# Altium integrated library Lattice ORCA Series 2.IntLib: 202 symbols (part 7 of 22)
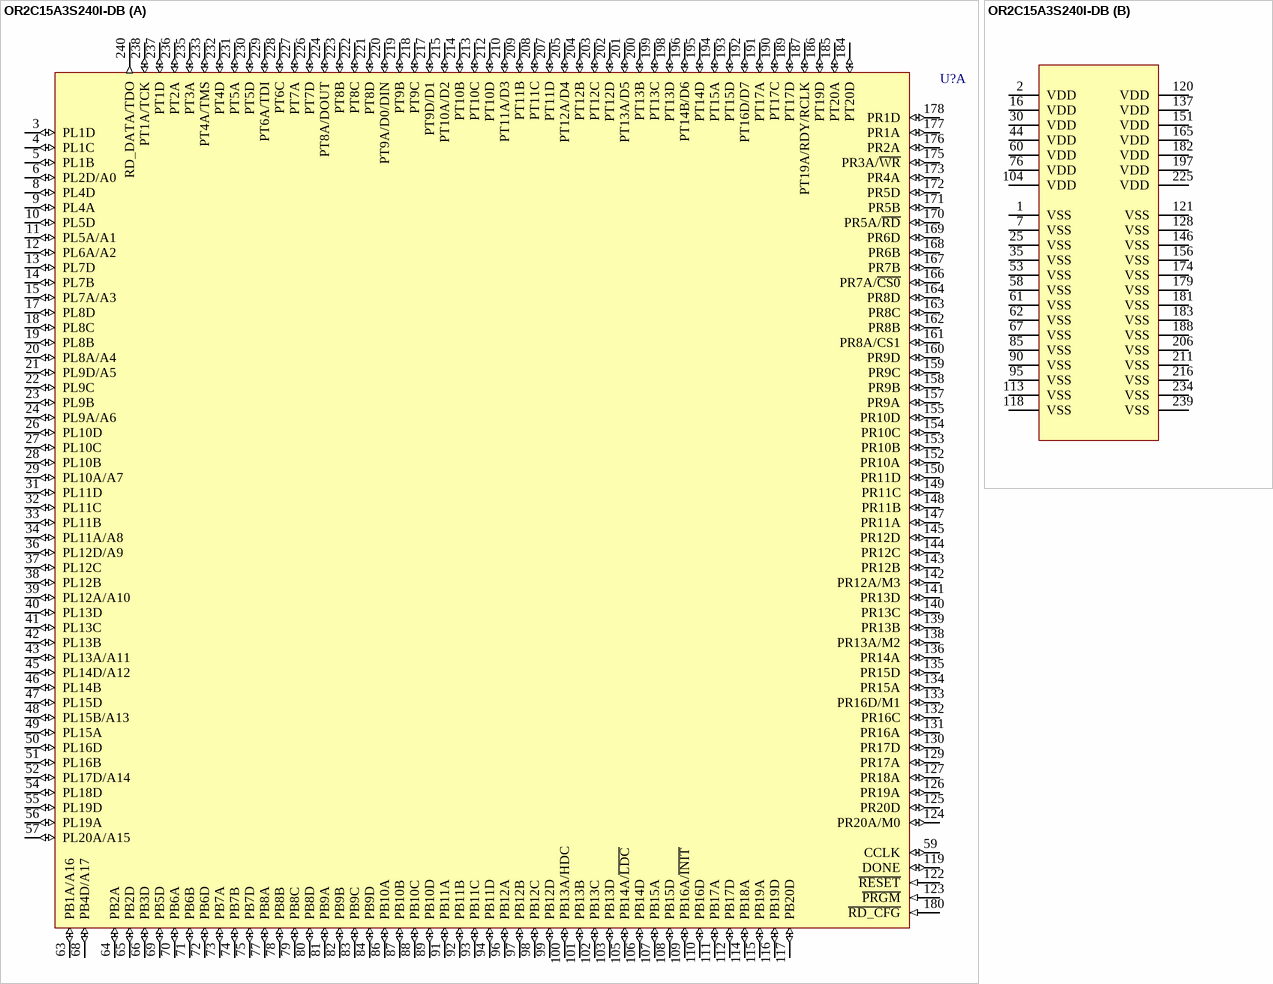
[diagram p198: symbol OR2C15A3S240I-DB]

## OR2C15A3S240I-DB
designator U?
ORCA Series 2C FPGA: 5.0 V, Industrial Grade, 320 User I/Os.; Published: 21-May-2003; LatestRevisionDate: 13-Apr-2006; LatestRevisionNote: IPC-7351 Footprint Added.; DatasheetVersion: Jan-2003; PackageVersion: pkg_32, Aug-2005; PackageReference: PQFP240; Publisher: Altium Limited; PackageDescription: 240-Pin Shrink Quad Flat Pack 0.5 mm Pitch; ComponentLink1Description: Manufacturer Link; ComponentLink1URL: http://www.latticesemi.com/products/fpga/orca/orca2/index.cfm; ComponentLink2Description: Datasheet; ComponentLink2URL: http://www.latticesemi.com/lit/docs/datasheets/fpga/ds99-094fpga.pdf; ComponentLink3Description: Lattice Login; ComponentLink3URL: http://www.latticesemi.com/account/login.cfm
footprint PQFP240_N (Shrink QFP, 240-Leads, Body 32x32mm, Pitch 0.5mm, IPC Medium Density)
footprint PQFP240_L (Shrink QFP, 240-Leads, Body 32x32mm, Pitch 0.5mm, IPC High Density)
footprint PQFP240_M (Shrink QFP, 240-Leads, Body 32x32mm, Pitch 0.5mm, IPC Low Density)
3D model OR2C15A-PQFP240 (240-Pin Shrink Quad Flat Pack 0.5 mm Pitch)
part A pins: 3 PL1D (io), 4 PL1C (io), 5 PL1B (io), 6 PL2D/A0 (io), 8 PL4D (io), 9 PL4A (io), 10 PL5D (io), 11 PL5A/A1 (io), 12 PL6A/A2 (io), 13 PL7D (io), 14 PL7B (io), 15 PL7A/A3 (io), 17 PL8D (io), 18 PL8C (io), 19 PL8B (io), 20 PL8A/A4 (io), 21 PL9D/A5 (io), 22 PL9C (io), 23 PL9B (io), 24 PL9A/A6 (io), 26 PL10D (io), 27 PL10C (io), 28 PL10B (io), 29 PL10A/A7 (io), 31 PL11D (io), 32 PL11C (io), 33 PL11B (io), 34 PL11A/A8 (io), 36 PL12D/A9 (io), 37 PL12C (io), 38 PL12B (io), 39 PL12A/A10 (io), 40 PL13D (io), 41 PL13C (io), 42 PL13B (io), 43 PL13A/A11 (io), 45 PL14D/A12 (io), 46 PL14B (io), 47 PL15D (io), 48 PL15B/A13 (io), 49 PL15A (io), 50 PL16D (io), 51 PL16B (io), 52 PL17D/A14 (io), 54 PL18D (io), 55 PL19D (io), 56 PL19A (io), 57 PL20A/A15 (io), 59 CCLK (io), 63 PB1A/A16 (io), 64 PB2A (io), 65 PB2D (io), 66 PB3D (io), 68 PB4D/A17 (io), 69 PB5D (io), 70 PB6A (io), 71 PB6B (io), 72 PB6D (io), 73 PB7A (io), 74 PB7B (io), 75 PB7D (io), 77 PB8A (io), 78 PB8B (io), 79 PB8C (io), 80 PB8D (io), 81 PB9A (io), 82 PB9B (io), 83 PB9C (io), 84 PB9D (io), 86 PB10A (io), 87 PB10B (io), 88 PB10C (io), 89 PB10D (io), 91 PB11A (io), 92 PB11B (io), 93 PB11C (io), 94 PB11D (io), 96 PB12A (io), 97 PB12B (io), 98 PB12C (io), 99 PB12D (io), 100 PB13A/HDC (io), 101 PB13B (io), 102 PB13C (io), 103 PB13D (io), 105 PB14A/~{LDC} (io), 106 PB14D (io), 107 PB15A (io), 108 PB15D (io), 109 PB16A/~{INIT} (io), 110 PB16D (io), 111 PB17A (io), 112 PB17D (io), 114 PB18A (io), 115 PB19A (io), 116 PB19D (io), 117 PB20D (io), 119 DONE (io), 122 ~{RESET} (in), 123 ~{PRGM} (in), 124 PR20A/M0 (io), 125 PR20D (io), 126 PR19A (io), 127 PR18A (io), 129 PR17A (io), 130 PR17D (io), 131 PR16A (io), 132 PR16C (io), 133 PR16D/M1 (io), 134 PR15A (io), 135 PR15D (io), 136 PR14A (io), 138 PR13A/M2 (io), 139 PR13B (io), 140 PR13C (io), 141 PR13D (io), 142 PR12A/M3 (io), 143 PR12B (io), 144 PR12C (io), 145 PR12D (io), 147 PR11A (io), 148 PR11B (io), 149 PR11C (io), 150 PR11D (io), 152 PR10A (io), 153 PR10B (io), 154 PR10C (io), 155 PR10D (io), 157 PR9A (io), 158 PR9B (io), 159 PR9C (io), 160 PR9D (io), 161 PR8A/CS1 (io), 162 PR8B (io), 163 PR8C (io), 164 PR8D (io), 166 PR7A/~{CS0} (io), 167 PR7B (io), 168 PR6B (io), 169 PR6D (io), 170 PR5A/~{RD} (io), 171 PR5B (io), 172 PR5D (io), 173 PR4A (io), 175 PR3A/~{WR} (io), 176 PR2A (io), 177 PR1A (io), 178 PR1D (io), 180 ~{RD_CFG} (in), 184 PT20D (io), 185 PT20A (io), 186 PT19D (io), 187 PT19A/RDY/RCLK (io), 189 PT17D (io), 190 PT17C (io), 191 PT17A (io), 192 PT16D/D7 (io), 193 PT15D (io), 194 PT15A (io), 195 PT14D (io), 196 PT14B/D6 (io), 198 PT13D (io), 199 PT13C (io), 200 PT13B (io), 201 PT13A/D5 (io), 202 PT12D (io), 203 PT12C (io), 204 PT12B (io), 205 PT12A/D4 (io), 207 PT11D (io), 208 PT11C (io), 209 PT11B (io), 210 PT11A/D3 (io), 212 PT10D (io), 213 PT10C (io), 214 PT10B (io), 215 PT10A/D2 (io), 217 PT9D/D1 (io), 218 PT9C (io), 219 PT9B (io), 220 PT9A/D0/DIN (io), 221 PT8D (io), 222 PT8C (io), 223 PT8B (io), 224 PT8A/DOUT (io), 226 PT7D (io), 227 PT7A (io), 228 PT6C (io), 229 PT6A/TDI (io), 230 PT5D (io), 231 PT5A (io), 232 PT4D (io), 233 PT4A/TMS (io), 235 PT3A (io), 236 PT2A (io), 237 PT1D (io), 238 PT1A/TCK (io), 240 RD_DATA/TDO (out)
part B pins: 1 VSS (power), 2 VDD (power), 7 VSS (power), 16 VDD (power), 25 VSS (power), 30 VDD (power), 35 VSS (power), 44 VDD (power), 53 VSS (power), 58 VSS (power), 60 VDD (power), 61 VSS (power), 62 VSS (power), 67 VSS (power), 76 VDD (power), 85 VSS (power), 90 VSS (power), 95 VSS (power), 104 VDD (power), 113 VSS (power), 118 VSS (power), 120 VDD (power), 121 VSS (power), 128 VSS (power), 137 VDD (power), 146 VSS (power), 151 VDD (power), 156 VSS (power), 165 VDD (power), 174 VSS (power), 179 VSS (power), 181 VSS (power), 182 VDD (power), 183 VSS (power), 188 VSS (power), 197 VDD (power), 206 VSS (power), 211 VSS (power), 216 VSS (power), 225 VDD (power), 234 VSS (power), 239 VSS (power)

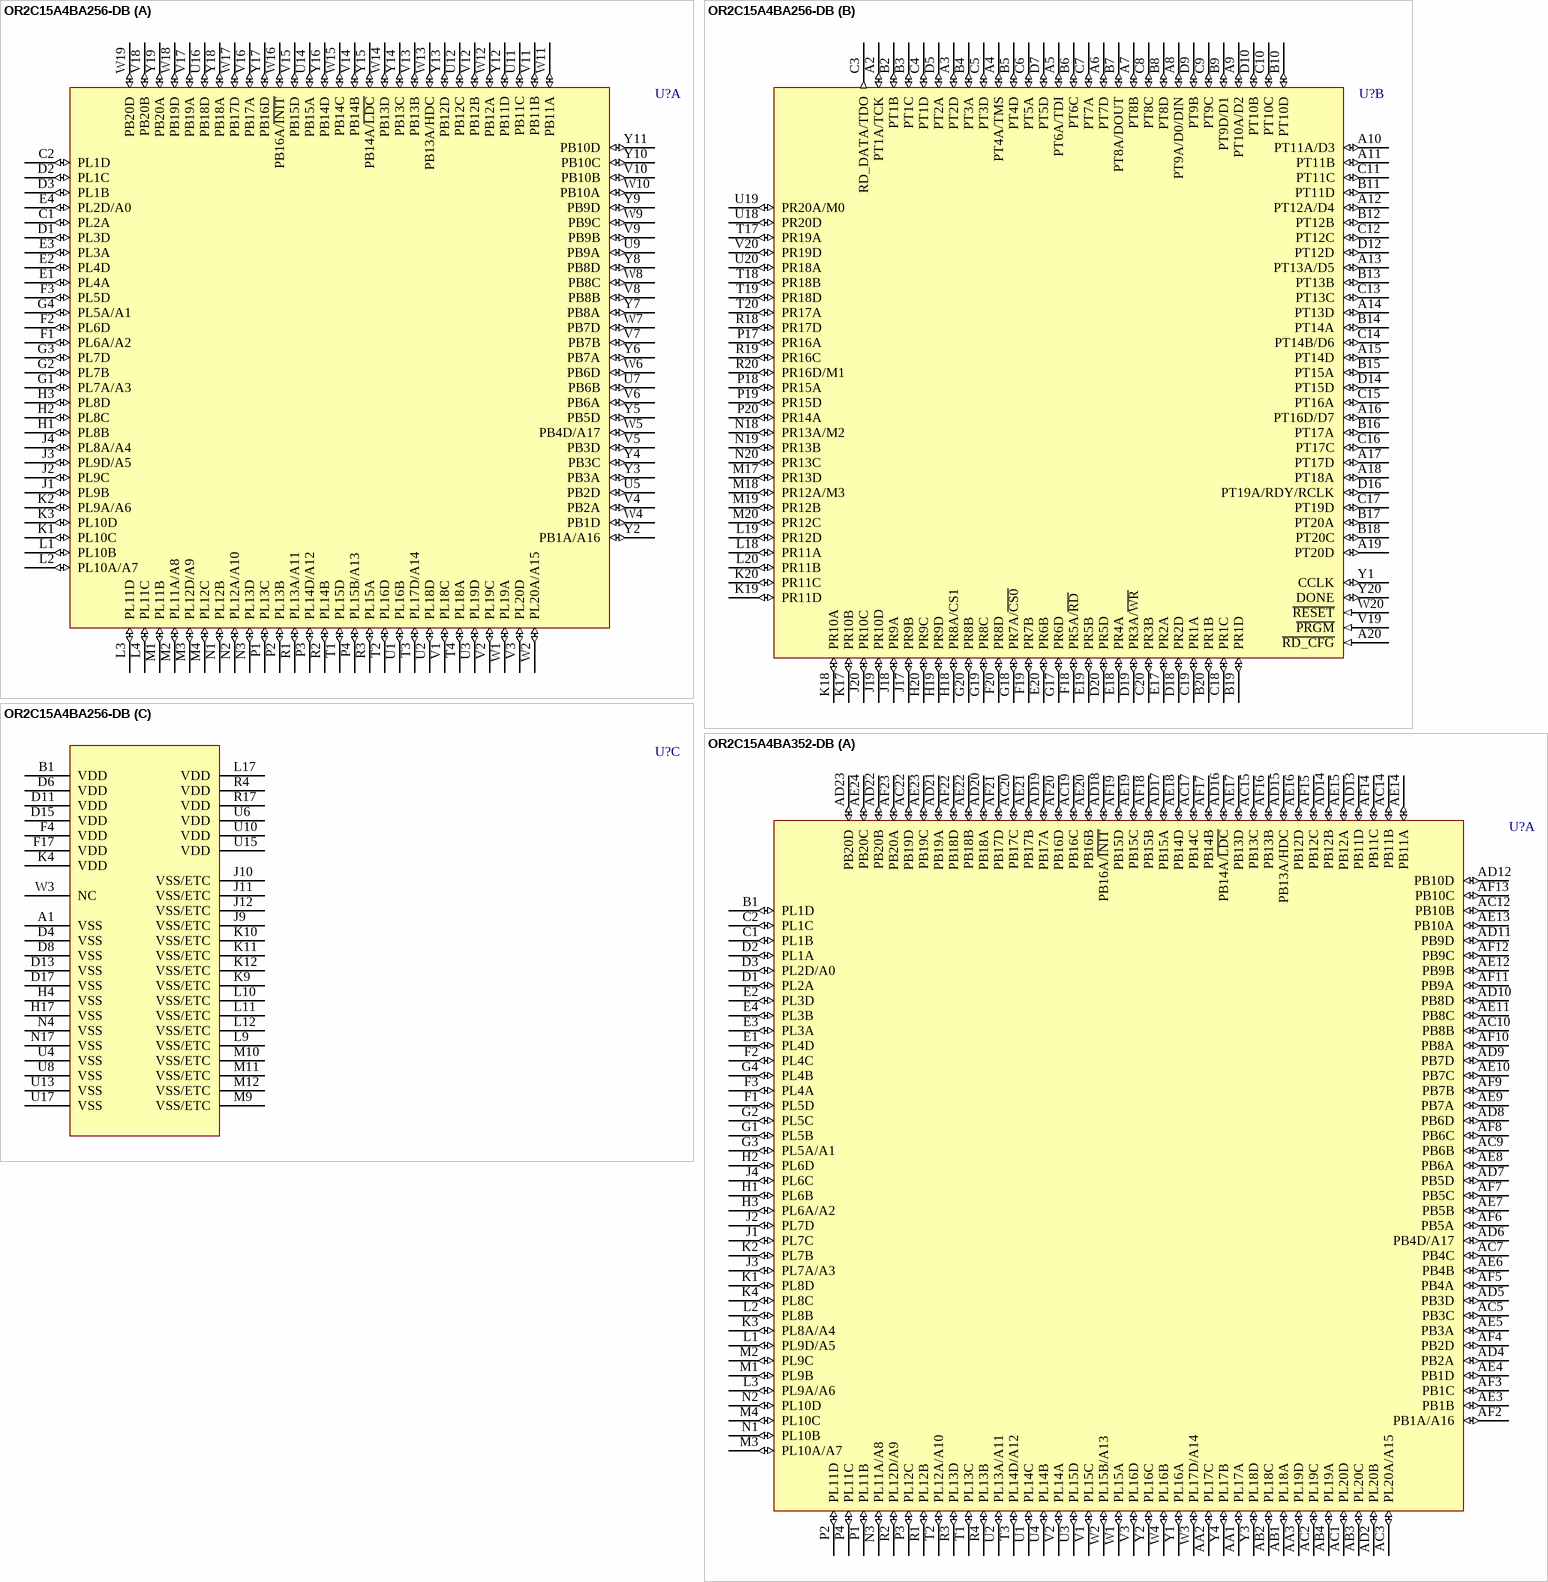
[diagram p47: symbols OR2C15A4BA256-DB to OR2C15A4BA352-DB]

## OR2C15A4BA256-DB
designator U?
ORCA Series 2C FPGA: 5.0 V, Commercial Grade, 320 User I/Os.; PinConnectionRecommendation: Ground array of 'VSS-ETC' pins for enhanced thermal capability or leave unconnected.; Published: 21-May-2003; LatestRevisionDate: 13-Apr-2006; LatestRevisionNote: IPC-7351 Footprint Added.; DatasheetVersion: Jan-2003; PackageVersion: pkg_32, Aug-2005; PackageReference: BGA272; Publisher: Altium Limited; PackageDescription: 272-Ball Ball Grid Array (BGA272); ComponentLink1Description: Manufacturer Link; ComponentLink1URL: http://www.latticesemi.com/products/fpga/orca/orca2/index.cfm; ComponentLink2Description: Datasheet; ComponentLink2URL: http://www.latticesemi.com/lit/docs/datasheets/fpga/ds99-094fpga.pdf; ComponentLink3Description: Lattice Login; ComponentLink3URL: http://www.latticesemi.com/account/login.cfm
footprint BGA272 (BGA, 272-Leads, Body 27x27mm, Pitch 1.27mm)
3D model OR2C15A-BGA272 (272-Ball Ball Grid Array (BGA272))
part A pins: C1 PL2A (io), C2 PL1D (io), D1 PL3D (io), D2 PL1C (io), D3 PL1B (io), E1 PL4A (io), E2 PL4D (io), E3 PL3A (io), E4 PL2D/A0 (io), F1 PL6A/A2 (io), F2 PL6D (io), F3 PL5D (io), G1 PL7A/A3 (io), G2 PL7B (io), G3 PL7D (io), G4 PL5A/A1 (io), H1 PL8B (io), H2 PL8C (io), H3 PL8D (io), J1 PL9B (io), J2 PL9C (io), J3 PL9D/A5 (io), J4 PL8A/A4 (io), K1 PL10C (io), K2 PL9A/A6 (io), K3 PL10D (io), L1 PL10B (io), L2 PL10A/A7 (io), L3 PL11D (io), L4 PL11C (io), M1 PL11B (io), M2 PL11A/A8 (io), M3 PL12D/A9 (io), M4 PL12C (io), N1 PL12B (io), N2 PL12A/A10 (io), N3 PL13D (io), P1 PL13C (io), P2 PL13B (io), P3 PL14D/A12 (io), P4 PL15B/A13 (io), R1 PL13A/A11 (io), R2 PL14B (io), R3 PL15A (io), T1 PL15D (io), T2 PL16D (io), T3 PL17D/A14 (io), T4 PL18A (io), U1 PL16B (io), U2 PL18D (io), U3 PL19D (io), U5 PB2D (io), U7 PB6B (io), U9 PB9A (io), U11 PB11C (io), U12 PB12C (io), U14 PB15A (io), U16 PB18D (io), V1 PL18C (io), V2 PL19C (io), V3 PL20D (io), V4 PB2A (io), V5 PB3D (io), V6 PB6A (io), V7 PB7B (io), V8 PB8B (io), V9 PB9B (io), V10 PB10B (io), V11 PB11B (io), V12 PB12B (io), V13 PB13B (io), V14 PB14B (io), V15 PB15D (io), V16 PB17A (io), V17 PB19A (io), V18 PB20B (io), W1 PL19A (io), W2 PL20A/A15 (io), W4 PB1D (io), W5 PB4D/A17 (io), W6 PB6D (io), W7 PB7D (io), W8 PB8C (io), W9 PB9C (io), W10 PB10A (io), W11 PB11A (io), W12 PB12A (io), W13 PB13A/HDC (io), W14 PB13D (io), W15 PB14C (io), W16 PB16A/~{INIT} (io), W17 PB17D (io), W18 PB19D (io), W19 PB20D (io), Y2 PB1A/A16 (io), Y3 PB3A (io), Y4 PB3C (io), Y5 PB5D (io), Y6 PB7A (io), Y7 PB8A (io), Y8 PB8D (io), Y9 PB9D (io), Y10 PB10C (io), Y11 PB10D (io), Y12 PB11D (io), Y13 PB12D (io), Y14 PB13C (io), Y15 PB14A/~{LDC} (io), Y16 PB14D (io), Y17 PB16D (io), Y18 PB18A (io), Y19 PB20A (io)
part B pins: A2 PT1A/TCK (io), A3 PT2D (io), A4 PT4A/TMS (io), A5 PT6A/TDI (io), A6 PT7D (io), A7 PT8B (io), A8 PT9A/D0/DIN (io), A9 PT10A/D2 (io), A10 PT11A/D3 (io), A11 PT11B (io), A12 PT12A/D4 (io), A13 PT13A/D5 (io), A14 PT13D (io), A15 PT14D (io), A16 PT16D/D7 (io), A17 PT17D (io), A18 PT18A (io), A19 PT20D (io), A20 ~{RD_CFG} (in), B2 PT1B (io), B3 PT1C (io), B4 PT3A (io), B5 PT4D (io), B6 PT6C (io), B7 PT8A/DOUT (io), B8 PT8D (io), B9 PT9D/D1 (io), B10 PT10D (io), B11 PT11D (io), B12 PT12B (io), B13 PT13B (io), B14 PT14A (io), B15 PT15A (io), B16 PT17A (io), B17 PT20A (io), B18 PT20C (io), B19 PR1D (io), B20 PR1B (io), C3 RD_DATA/TDO (out), C4 PT1D (io), C5 PT3D (io), C6 PT5A (io), C7 PT7A (io), C8 PT8C (io), C9 PT9C (io), C10 PT10C (io), C11 PT11C (io), C12 PT12C (io), C13 PT13C (io), C14 PT14B/D6 (io), C15 PT16A (io), C16 PT17C (io), C17 PT19D (io), C18 PR1C (io), C19 PR1A (io), C20 PR3B (io), D5 PT2A (io), D7 PT5D (io), D9 PT9B (io), D10 PT10B (io), D12 PT12D (io), D14 PT15D (io), D16 PT19A/RDY/RCLK (io), D18 PR2D (io), D19 PR3A/~{WR} (io), D20 PR5D (io), E17 PR2A (io), E18 PR4A (io), E19 PR5B (io), E20 PR6B (io), F18 PR5A/~{RD} (io), F19 PR7B (io), F20 PR8D (io), G17 PR6D (io), G18 PR7A/~{CS0} (io), G19 PR8C (io), G20 PR8B (io), H18 PR8A/CS1 (io), H19 PR9D (io), H20 PR9C (io), J17 PR9B (io), J18 PR9A (io), J19 PR10D (io), J20 PR10C (io), K17 PR10B (io), K18 PR10A (io), K19 PR11D (io), K20 PR11C (io), L18 PR11A (io), L19 PR12D (io), L20 PR11B (io), M17 PR13D (io), M18 PR12A/M3 (io), M19 PR12B (io), M20 PR12C (io), N18 PR13A/M2 (io), N19 PR13B (io), N20 PR13C (io), P17 PR16A (io), P18 PR15A (io), P19 PR15D (io), P20 PR14A (io), R18 PR17D (io), R19 PR16C (io), R20 PR16D/M1 (io), T17 PR19A (io), T18 PR18B (io), T19 PR18D (io), T20 PR17A (io), U18 PR20D (io), U19 PR20A/M0 (io), U20 PR18A (io), V19 ~{PRGM} (in), V20 PR19D (io), W20 ~{RESET} (in), Y1 CCLK (io), Y20 DONE (io)
part C pins: A1 VSS (power), B1 VDD (power), D4 VSS (power), D6 VDD (power), D8 VSS (power), D11 VDD (power), D13 VSS (power), D15 VDD (power), D17 VSS (power), F4 VDD (power), F17 VDD (power), H4 VSS (power), H17 VSS (power), J9 VSS/ETC (power), J10 VSS/ETC (power), J11 VSS/ETC (power), J12 VSS/ETC (power), K4 VDD (power), K9 VSS/ETC (power), K10 VSS/ETC (power), K11 VSS/ETC (power), K12 VSS/ETC (power), L9 VSS/ETC (power), L10 VSS/ETC (power), L11 VSS/ETC (power), L12 VSS/ETC (power), L17 VDD (power), M9 VSS/ETC (power), M10 VSS/ETC (power), M11 VSS/ETC (power), M12 VSS/ETC (power), N4 VSS (power), N17 VSS (power), R4 VDD (power), R17 VDD (power), U4 VSS (power), U6 VDD (power), U8 VSS (power), U10 VDD (power), U13 VSS (power), U15 VDD (power), U17 VSS (power), W3 NC

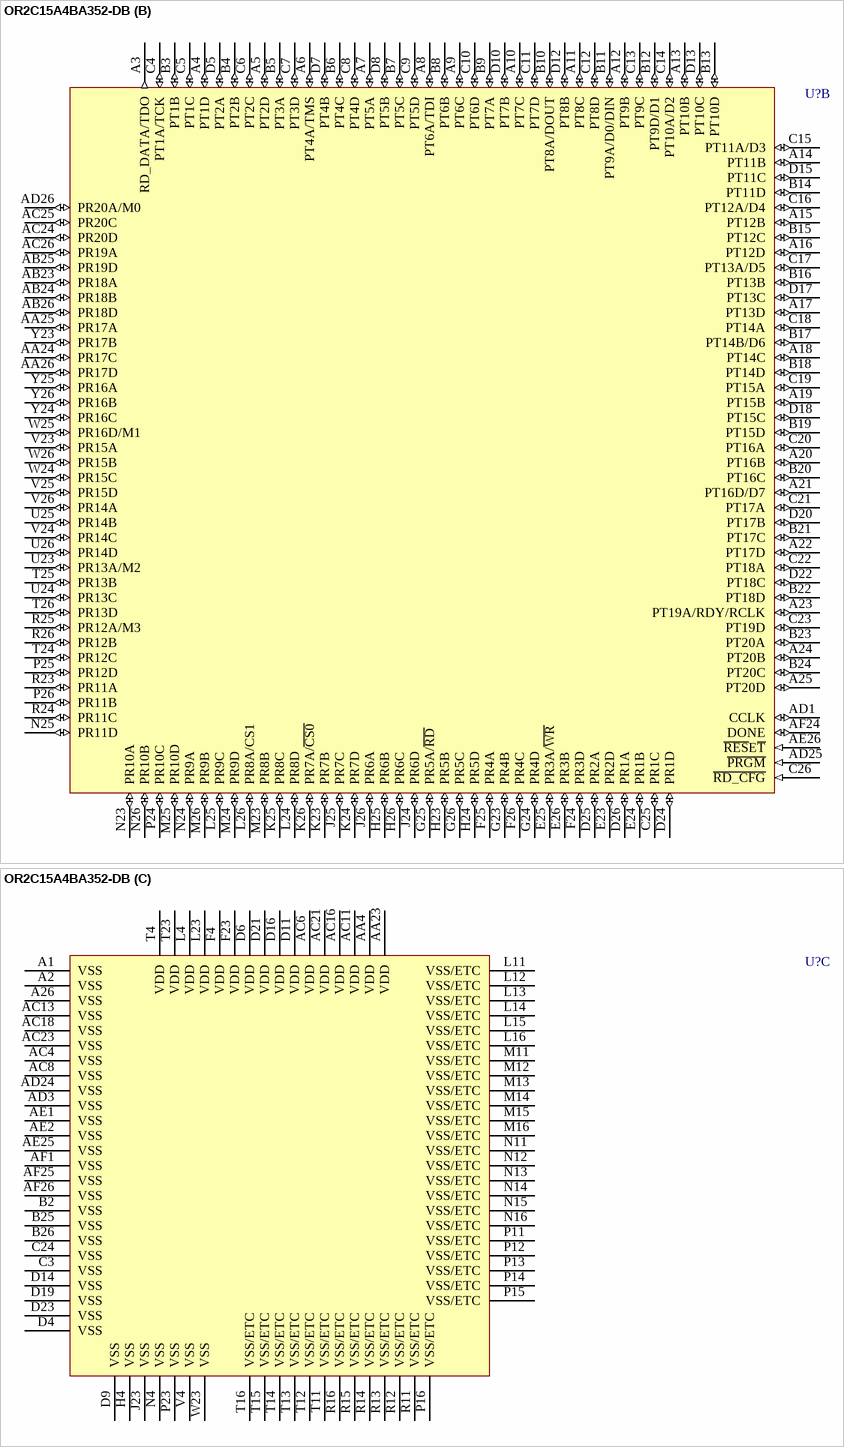
[diagram p48: symbol OR2C15A4BA352-DB]

## OR2C15A4BA352-DB
designator U?
ORCA Series 2C FPGA: 5.0 V, Commercial Grade, 320 User I/Os.; PinConnectionRecommendation: Ground array of 'VSS-ETC' pins for enhanced thermal capability or leave unconnected.; Published: 21-May-2003; LatestRevisionDate: 13-Apr-2006; LatestRevisionNote: IPC-7351 Footprint Added.; DatasheetVersion: Jan-2003; PackageVersion: pkg_32, Aug-2005; PackageReference: BGA388; Publisher: Altium Limited; PackageDescription: 388-Ball Ball Grid Array (BGA388); ComponentLink1Description: Manufacturer Link; ComponentLink1URL: http://www.latticesemi.com/products/fpga/orca/orca2/index.cfm; ComponentLink2Description: Datasheet; ComponentLink2URL: http://www.latticesemi.com/lit/docs/datasheets/fpga/ds99-094fpga.pdf; ComponentLink3Description: Lattice Login; ComponentLink3URL: http://www.latticesemi.com/account/login.cfm
footprint BGA388 (BGA, 388-Leads, Body 35x35mm, Pitch 1.27mm)
3D model OR2C15A-BGA388 (388-Ball Ball Grid Array (BGA388))
part A pins: AA1 PL17A (io), AA2 PL17C (io), AA3 PL19D (io), AB1 PL18A (io), AB2 PL18C (io), AB3 PL20C (io), AB4 PL19A (io), AC1 PL20D (io), AC2 PL19C (io), AC3 PL20A/A15 (io), AC5 PB3C (io), AC7 PB4C (io), AC9 PB6B (io), AC10 PB8B (io), AC12 PB10B (io), AC14 PB11B (io), AC15 PB13C (io), AC17 PB14C (io), AC19 PB16C (io), AC20 PB17C (io), AC22 PB19D (io), AD2 PL20B (io), AD4 PB2A (io), AD5 PB3D (io), AD6 PB4D/A17 (io), AD7 PB5D (io), AD8 PB6D (io), AD9 PB7D (io), AD10 PB8D (io), AD11 PB9D (io), AD12 PB10D (io), AD13 PB11D (io), AD14 PB12B (io), AD15 PB13A/HDC (io), AD16 PB14A/~{LDC} (io), AD17 PB15A (io), AD18 PB16A/~{INIT} (io), AD19 PB17A (io), AD20 PB18A (io), AD21 PB19A (io), AD22 PB20B (io), AD23 PB20D (io), AE3 PB1B (io), AE4 PB1D (io), AE5 PB3A (io), AE6 PB4B (io), AE7 PB5B (io), AE8 PB6A (io), AE9 PB7A (io), AE10 PB7C (io), AE11 PB8C (io), AE12 PB9B (io), AE13 PB10A (io), AE14 PB11A (io), AE15 PB12A (io), AE16 PB12D (io), AE17 PB13D (io), AE18 PB14D (io), AE19 PB15C (io), AE20 PB16B (io), AE21 PB17B (io), AE22 PB18B (io), AE23 PB19C (io), AE24 PB20C (io), AF2 PB1A/A16 (io), AF3 PB1C (io), AF4 PB2D (io), AF5 PB4A (io), AF6 PB5A (io), AF7 PB5C (io), AF8 PB6C (io), AF9 PB7B (io), AF10 PB8A (io), AF11 PB9A (io), AF12 PB9C (io), AF13 PB10C (io), AF14 PB11C (io), AF15 PB12C (io), AF16 PB13B (io), AF17 PB14B (io), AF18 PB15B (io), AF19 PB15D (io), AF20 PB16D (io), AF21 PB17D (io), AF22 PB18D (io), AF23 PB20A (io), B1 PL1D (io), C1 PL1B (io), C2 PL1C (io), D1 PL2A (io), D2 PL1A (io), D3 PL2D/A0 (io), E1 PL4D (io), E2 PL3D (io), E3 PL3A (io), E4 PL3B (io), F1 PL5D (io), F2 PL4C (io), F3 PL4A (io), G1 PL5B (io), G2 PL5C (io), G3 PL5A/A1 (io), G4 PL4B (io), H1 PL6B (io), H2 PL6D (io), H3 PL6A/A2 (io), J1 PL7C (io), J2 PL7D (io), J3 PL7A/A3 (io), J4 PL6C (io), K1 PL8D (io), K2 PL7B (io), K3 PL8A/A4 (io), K4 PL8C (io), L1 PL9D/A5 (io), L2 PL8B (io), L3 PL9A/A6 (io), M1 PL9B (io), M2 PL9C (io), M3 PL10A/A7 (io), M4 PL10C (io), N1 PL10B (io), N2 PL10D (io), N3 PL11A/A8 (io), P1 PL11B (io), P2 PL11D (io), P3 PL12C (io), P4 PL11C (io), R1 PL12B (io), R2 PL12D/A9 (io), R3 PL13D (io), R4 PL13B (io), T1 PL13C (io), T2 PL12A/A10 (io), T3 PL14D/A12 (io), U1 PL14C (io), U2 PL13A/A11 (io), U3 PL15D (io), U4 PL14B (io), V1 PL15C (io), V2 PL14A (io), V3 PL16D (io), W1 PL15A (io), W2 PL15B/A13 (io), W3 PL17D/A14 (io), W4 PL16B (io), Y1 PL16A (io), Y2 PL16C (io), Y3 PL18D (io), Y4 PL17B (io)
part B pins: A3 RD_DATA/TDO (out), A4 PT1D (io), A5 PT2D (io), A6 PT4A/TMS (io), A7 PT5A (io), A8 PT6A/TDI (io), A9 PT6C (io), A10 PT7C (io), A11 PT8C (io), A12 PT9B (io), A13 PT10B (io), A14 PT11B (io), A15 PT12B (io), A16 PT12D (io), A17 PT13D (io), A18 PT14C (io), A19 PT15B (io), A20 PT16B (io), A21 PT16D/D7 (io), A22 PT17D (io), A23 PT19A/RDY/RCLK (io), A24 PT20B (io), A25 PT20D (io), AA24 PR17C (io), AA25 PR17A (io), AA26 PR17D (io), AB23 PR18A (io), AB24 PR18B (io), AB25 PR19D (io), AB26 PR18D (io), AC24 PR20D (io), AC25 PR20C (io), AC26 PR19A (io), AD1 CCLK (io), AD25 ~{PRGM} (in), AD26 PR20A/M0 (io), AE26 ~{RES}E~{T} (in), AF24 DONE (io), B3 PT1B (io), B4 PT2B (io), B5 PT3A (io), B6 PT4C (io), B7 PT5C (io), B8 PT6B (io), B9 PT7A (io), B10 PT8A/DOUT (io), B11 PT9A/D0/DIN (io), B12 PT9D/D1 (io), B13 PT10D (io), B14 PT11D (io), B15 PT12C (io), B16 PT13B (io), B17 PT14B/D6 (io), B18 PT14D (io), B19 PT15D (io), B20 PT16C (io), B21 PT17C (io), B22 PT18D (io), B23 PT20A (io), B24 PT20C (io), C4 PT1A/TCK (io), C5 PT1C (io), C6 PT2C (io), C7 PT3D (io), C8 PT4D (io), C9 PT5D (io), C10 PT6D (io), C11 PT7D (io), C12 PT8D (io), C13 PT9C (io), C14 PT10A/D2 (io), C15 PT11A/D3 (io), C16 PT12A/D4 (io), C17 PT13A/D5 (io), C18 PT14A (io), C19 PT15A (io), C20 PT16A (io), C21 PT17A (io), C22 PT18A (io), C23 PT19D (io), C25 PR1C (io), C26 ~{RD_CFG} (in), D5 PT2A (io), D7 PT4B (io), D8 PT5B (io), D10 PT7B (io), D12 PT8B (io), D13 PT10C (io), D15 PT11C (io), D17 PT13C (io), D18 PT15C (io), D20 PT17B (io), D22 PT18C (io), D24 PR1D (io), D25 PR2A (io), D26 PR1A (io), E23 PR2D (io), E24 PR1B (io), E25 PR3A/~{WR} (io), E26 PR3B (io), F24 PR3D (io), F25 PR4A (io), F26 PR4C (io), G23 PR4B (io), G24 PR4D (io), G25 PR5A/~{RD} (io), G26 PR5C (io), H23 PR5B (io), H24 PR5D (io), H25 PR6B (io), H26 PR6C (io), J24 PR6D (io), J25 PR7C (io), J26 PR6A (io), K23 PR7B (io), K24 PR7D (io), K25 PR8C (io), K26 PR7A/~{CS0} (io), L24 PR8D (io), L25 PR9C (io), L26 PR8A/CS1 (io), M23 PR8B (io), M24 PR9D (io), M25 PR10D (io), M26 PR9B (io), N23 PR10A (io), N24 PR9A (io), N25 PR11D (io), N26 PR10B (io), P24 PR10C (io), P25 PR12D (io), P26 PR11B (io), R23 PR11A (io), R24 PR11C (io), R25 PR12A/M3 (io), R26 PR12B (io), T24 PR12C (io), T25 PR13B (io), T26 PR13D (io), U23 PR13A/M2 (io), U24 PR13C (io), U25 PR14B (io), U26 PR14D (io), V23 PR15A (io), V24 PR14C (io), V25 PR15D (io), V26 PR14A (io), W24 PR15C (io), W25 PR16D/M1 (io), W26 PR15B (io), Y23 PR17B (io), Y24 PR16C (io), Y25 PR16A (io), Y26 PR16B (io)
part C pins: A1 VSS (power), A2 VSS (power), A26 VSS (power), AA4 VDD (power), AA23 VDD (power), AC4 VSS (power), AC6 VDD (power), AC8 VSS (power), AC11 VDD (power), AC13 VSS (power), AC16 VDD (power), AC18 VSS (power), AC21 VDD (power), AC23 VSS (power), AD3 VSS (power), AD24 VSS (power), AE1 VSS (power), AE2 VSS (power), AE25 VSS (power), AF1 VSS (power), AF25 VSS (power), AF26 VSS (power), B2 VSS (power), B25 VSS (power), B26 VSS (power), C3 VSS (power), C24 VSS (power), D4 VSS (power), D6 VDD (power), D9 VSS (power), D11 VDD (power), D14 VSS (power), D16 VDD (power), D19 VSS (power), D21 VDD (power), D23 VSS (power), F4 VDD (power), F23 VDD (power), H4 VSS (power), J23 VSS (power), L4 VDD (power), L11 VSS/ETC (power), L12 VSS/ETC (power), L13 VSS/ETC (power), L14 VSS/ETC (power), L15 VSS/ETC (power), L16 VSS/ETC (power), L23 VDD (power), M11 VSS/ETC (power), M12 VSS/ETC (power), M13 VSS/ETC (power), M14 VSS/ETC (power), M15 VSS/ETC (power), M16 VSS/ETC (power), N4 VSS (power), N11 VSS/ETC (power), N12 VSS/ETC (power), N13 VSS/ETC (power), N14 VSS/ETC (power), N15 VSS/ETC (power), N16 VSS/ETC (power), P11 VSS/ETC (power), P12 VSS/ETC (power), P13 VSS/ETC (power), P14 VSS/ETC (power), P15 VSS/ETC (power), P16 VSS/ETC (power), P23 VSS (power), R11 VSS/ETC (power), R12 VSS/ETC (power), R13 VSS/ETC (power), R14 VSS/ETC (power), R15 VSS/ETC (power), R16 VSS/ETC (power), T4 VDD (power), T11 VSS/ETC (power), T12 VSS/ETC (power), T13 VSS/ETC (power), T14 VSS/ETC (power), T15 VSS/ETC (power), T16 VSS/ETC (power), T23 VDD (power), V4 VSS (power), W23 VSS (power)

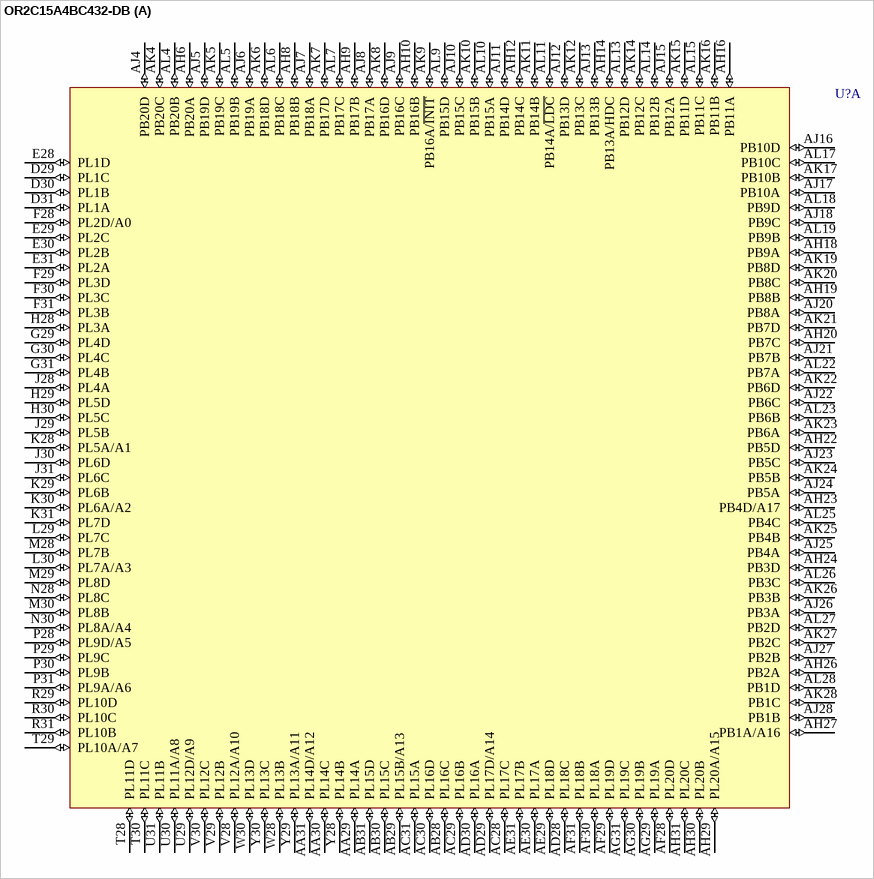
[diagram p49: symbol OR2C15A4BC432-DB]

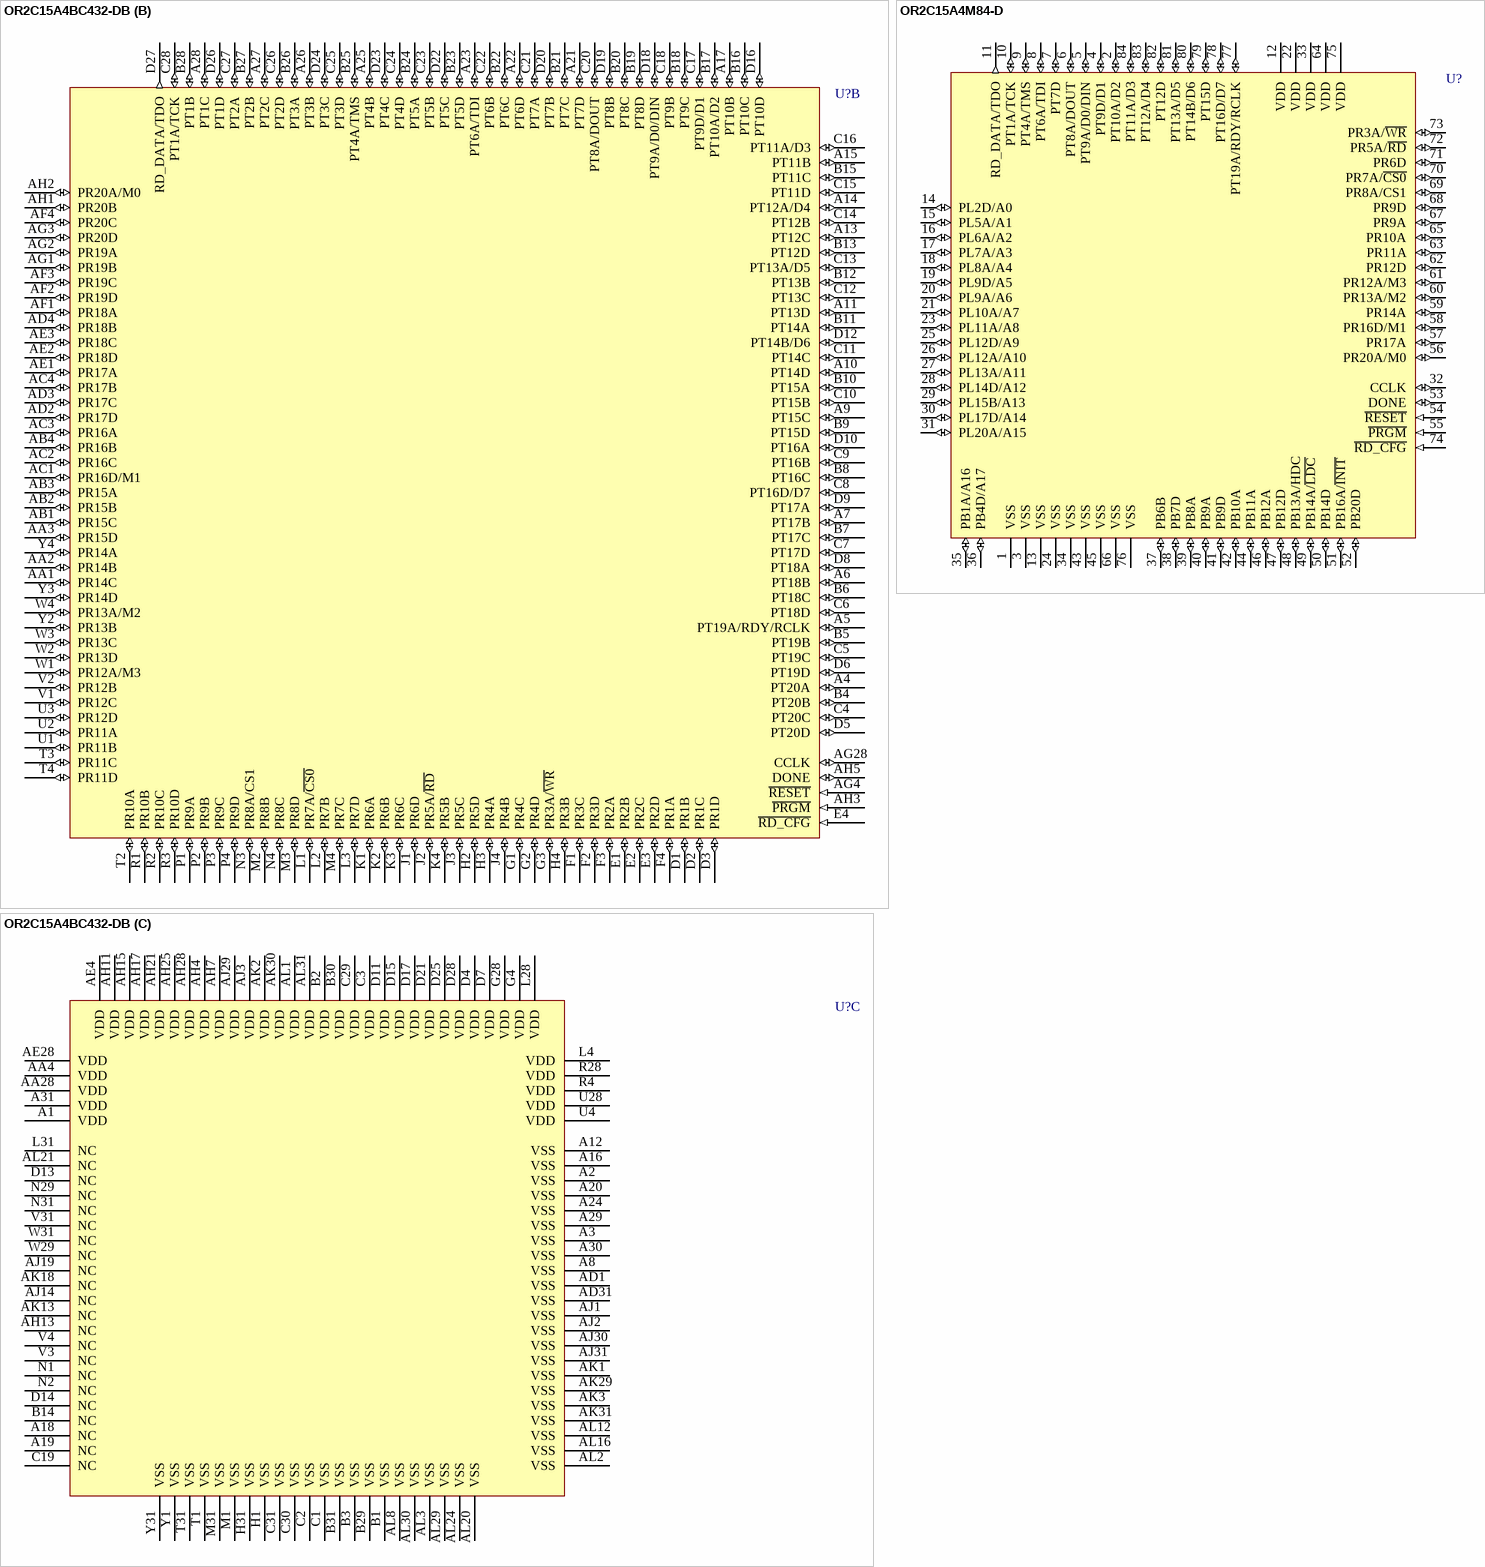
[diagram p50: symbols OR2C15A4BC432-DB to OR2C15A4M84-D]

## OR2C15A4BC432-DB
designator U?
ORCA Series 2C FPGA: 5.0 V, Commercial Grade, 320 User I/Os.; Published: 21-May-2003; LatestRevisionDate: 13-Apr-2006; LatestRevisionNote: IPC-7351 Footprint Added.; DatasheetVersion: Jan-2003; PackageVersion: pkg_32, Aug-2005; PackageReference: SBGA432; Publisher: Altium Limited; PackageDescription: 432-Ball Super Ball Grid Array (SBGA432); ComponentLink1Description: Manufacturer Link; ComponentLink1URL: http://www.latticesemi.com/products/fpga/orca/orca2/index.cfm; ComponentLink2Description: Datasheet; ComponentLink2URL: http://www.latticesemi.com/lit/docs/datasheets/fpga/ds99-094fpga.pdf; ComponentLink3Description: Lattice Login; ComponentLink3URL: http://www.latticesemi.com/account/login.cfm
footprint SBGA432 (BGA, 432-Leads, Body 40x40mm, Pitch 1.27mm)
3D model OR2C15A-SBGA432 (432-Ball Super Ball Grid Array (SBGA432))
part A pins: AA29 PL14A (io), AA30 PL14C (io), AA31 PL14D/A12 (io), AB28 PL16C (io), AB29 PL15B/A13 (io), AB30 PL15C (io), AB31 PL15D (io), AC28 PL17C (io), AC29 PL16B (io), AC30 PL16D (io), AC31 PL15A (io), AD28 PL18C (io), AD29 PL17D/A14 (io), AD30 PL16A (io), AE29 PL18D (io), AE30 PL17A (io), AE31 PL17B (io), AF28 PL20D (io), AF29 PL19D (io), AF30 PL18A (io), AF31 PL18B (io), AG29 PL19A (io), AG30 PL19B (io), AG31 PL19C (io), AH6 PB20A (io), AH8 PB18B (io), AH9 PB17B (io), AH10 PB16B (io), AH12 PB14C (io), AH14 PB13A/HDC (io), AH16 PB11A (io), AH18 PB9A (io), AH19 PB8B (io), AH20 PB7C (io), AH22 PB5D (io), AH23 PB4D/A17 (io), AH24 PB3D (io), AH26 PB2A (io), AH27 PB1A/A16 (io), AH29 PL20A/A15 (io), AH30 PL20B (io), AH31 PL20C (io), AJ4 PB20D (io), AJ5 PB19D (io), AJ6 PB19A (io), AJ7 PB18A (io), AJ8 PB17A (io), AJ9 PB16C (io), AJ10 PB15C (io), AJ11 PB14D (io), AJ12 PB13D (io), AJ13 PB13B (io), AJ15 PB12A (io), AJ16 PB10D (io), AJ17 PB10A (io), AJ18 PB9C (io), AJ20 PB8A (io), AJ21 PB7B (io), AJ22 PB6C (io), AJ23 PB5C (io), AJ24 PB5A (io), AJ25 PB4A (io), AJ26 PB3A (io), AJ27 PB2B (io), AJ28 PB1B (io), AK4 PB20C (io), AK5 PB19C (io), AK6 PB18D (io), AK7 PB17D (io), AK8 PB16D (io), AK9 PB16A/~{INIT} (io), AK10 PB15B (io), AK11 PB14B (io), AK12 PB13C (io), AK14 PB12C (io), AK15 PB11D (io), AK16 PB11B (io), AK17 PB10B (io), AK19 PB8D (io), AK20 PB8C (io), AK21 PB7D (io), AK22 PB6D (io), AK23 PB6A (io), AK24 PB5B (io), AK25 PB4B (io), AK26 PB3B (io), AK27 PB2C (io), AK28 PB1C (io), AL4 PB20B (io), AL5 PB19B (io), AL6 PB18C (io), AL7 PB17C (io), AL9 PB15D (io), AL10 PB15A (io), AL11 PB14A/~{LDC} (io), AL13 PB12D (io), AL14 PB12B (io), AL15 PB11C (io), AL17 PB10C (io), AL18 PB9D (io), AL19 PB9B (io), AL22 PB7A (io), AL23 PB6B (io), AL25 PB4C (io), AL26 PB3C (io), AL27 PB2D (io), AL28 PB1D (io), D29 PL1C (io), D30 PL1B (io), D31 PL1A (io), E28 PL1D (io), E29 PL2C (io), E30 PL2B (io), E31 PL2A (io), F28 PL2D/A0 (io), F29 PL3D (io), F30 PL3C (io), F31 PL3B (io), G29 PL4D (io), G30 PL4C (io), G31 PL4B (io), H28 PL3A (io), H29 PL5D (io), H30 PL5C (io), J28 PL4A (io), J29 PL5B (io), J30 PL6D (io), J31 PL6C (io), K28 PL5A/A1 (io), K29 PL6B (io), K30 PL6A/A2 (io), K31 PL7D (io), L29 PL7C (io), L30 PL7A/A3 (io), M28 PL7B (io), M29 PL8D (io), M30 PL8B (io), N28 PL8C (io), N30 PL8A/A4 (io), P28 PL9D/A5 (io), P29 PL9C (io), P30 PL9B (io), P31 PL9A/A6 (io), R29 PL10D (io), R30 PL10C (io), R31 PL10B (io), T28 PL11D (io), T29 PL10A/A7 (io), T30 PL11C (io), U29 PL12D/A9 (io), U30 PL11A/A8 (io), U31 PL11B (io), V28 PL12A/A10 (io), V29 PL12B (io), V30 PL12C (io), W28 PL13B (io), W30 PL13D (io), Y28 PL14B (io), Y29 PL13A/A11 (io), Y30 PL13C (io)
part B pins: A4 PT20A (io), A5 PT19A/RDY/RCLK (io), A6 PT18B (io), A7 PT17B (io), A9 PT15C (io), A10 PT14D (io), A11 PT13D (io), A13 PT12C (io), A14 PT12A/D4 (io), A15 PT11B (io), A17 PT10B (io), A21 PT7D (io), A22 PT6D (io), A23 PT6A/TDI (io), A25 PT4B (io), A26 PT3B (io), A27 PT2C (io), A28 PT1C (io), AA1 PR14C (io), AA2 PR14B (io), AA3 PR15D (io), AB1 PR15C (io), AB2 PR15B (io), AB3 PR15A (io), AB4 PR16B (io), AC1 PR16D/M1 (io), AC2 PR16C (io), AC3 PR16A (io), AC4 PR17B (io), AD2 PR17D (io), AD3 PR17C (io), AD4 PR18B (io), AE1 PR17A (io), AE2 PR18D (io), AE3 PR18C (io), AF1 PR18A (io), AF2 PR19D (io), AF3 PR19C (io), AF4 PR20C (io), AG1 PR19B (io), AG2 PR19A (io), AG3 PR20D (io), AG4 ~{RESET} (in), AG28 CCLK (io), AH1 PR20B (io), AH2 PR20A/M0 (io), AH3 ~{PRGM} (in), AH5 DONE (io), B4 PT20B (io), B5 PT19B (io), B6 PT18C (io), B7 PT17C (io), B8 PT16C (io), B9 PT15D (io), B10 PT15A (io), B11 PT14A (io), B12 PT13B (io), B13 PT12D (io), B15 PT11C (io), B16 PT10C (io), B17 PT10A/D2 (io), B18 PT9C (io), B19 PT8D (io), B20 PT8C (io), B21 PT7C (io), B22 PT6C (io), B23 PT5D (io), B24 PT5A (io), B25 PT4A/TMS (io), B26 PT3A (io), B27 PT2B (io), B28 PT1B (io), C4 PT20C (io), C5 PT19C (io), C6 PT18D (io), C7 PT17D (io), C8 PT16D/D7 (io), C9 PT16B (io), C10 PT15B (io), C11 PT14C (io), C12 PT13C (io), C13 PT13A/D5 (io), C14 PT12B (io), C15 PT11D (io), C16 PT11A/D3 (io), C17 PT9D/D1 (io), C18 PT9B (io), C20 PT8A/DOUT (io), C21 PT7A (io), C22 PT6B (io), C23 PT5B (io), C24 PT4D (io), C25 PT3D (io), C26 PT2D (io), C27 PT2A (io), C28 PT1A/TCK (io), D1 PR1B (io), D2 PR1C (io), D3 PR1D (io), D5 PT20D (io), D6 PT19D (io), D8 PT18A (io), D9 PT17A (io), D10 PT16A (io), D12 PT14B/D6 (io), D16 PT10D (io), D18 PT9A/D0/DIN (io), D19 PT8B (io), D20 PT7B (io), D22 PT5C (io), D23 PT4C (io), D24 PT3C (io), D26 PT1D (io), D27 RD_DATA/TDO (out), E1 PR2B (io), E2 PR2C (io), E3 PR2D (io), E4 ~{RD_CFG} (in), F1 PR3C (io), F2 PR3D (io), F3 PR2A (io), F4 PR1A (io), G1 PR4C (io), G2 PR4D (io), G3 PR3A/~{WR} (io), H2 PR5D (io), H3 PR4A (io), H4 PR3B (io), J1 PR6D (io), J2 PR5A/~{RD} (io), J3 PR5C (io), J4 PR4B (io), K1 PR6A (io), K2 PR6B (io), K3 PR6C (io), K4 PR5B (io), L1 PR7A/~{CS0} (io), L2 PR7B (io), L3 PR7D (io), M2 PR8B (io), M3 PR8D (io), M4 PR7C (io), N3 PR8A/CS1 (io), N4 PR8C (io), P1 PR9A (io), P2 PR9B (io), P3 PR9C (io), P4 PR9D (io), R1 PR10B (io), R2 PR10C (io), R3 PR10D (io), T2 PR10A (io), T3 PR11C (io), T4 PR11D (io), U1 PR11B (io), U2 PR11A (io), U3 PR12D (io), V1 PR12C (io), V2 PR12B (io), W1 PR12A/M3 (io), W2 PR13D (io), W3 PR13C (io), W4 PR13A/M2 (io), Y2 PR13B (io), Y3 PR14D (io), Y4 PR14A (io)
part C pins: A1 VDD (power), A2 VSS (power), A3 VSS (power), A8 VSS (power), A12 VSS (power), A16 VSS (power), A18 NC, A19 NC, A20 VSS (power), A24 VSS (power), A29 VSS (power), A30 VSS (power), A31 VDD (power), AA4 VDD (power), AA28 VDD (power), AD1 VSS (power), AD31 VSS (power), AE4 VDD (power), AE28 VDD (power), AH4 VDD (power), AH7 VDD (power), AH11 VDD (power), AH13 NC, AH15 VDD (power), AH17 VDD (power), AH21 VDD (power), AH25 VDD (power), AH28 VDD (power), AJ1 VSS (power), AJ2 VSS (power), AJ3 VDD (power), AJ14 NC, AJ19 NC, AJ29 VDD (power), AJ30 VSS (power), AJ31 VSS (power), AK1 VSS (power), AK2 VDD (power), AK3 VSS (power), AK13 NC, AK18 NC, AK29 VSS (power), AK30 VDD (power), AK31 VSS (power), AL1 VDD (power), AL2 VSS (power), AL3 VSS (power), AL8 VSS (power), AL12 VSS (power), AL16 VSS (power), AL20 VSS (power), AL21 NC, AL24 VSS (power), AL29 VSS (power), AL30 VSS (power), AL31 VDD (power), B1 VSS (power), B2 VDD (power), B3 VSS (power), B14 NC, B29 VSS (power), B30 VDD (power), B31 VSS (power), C1 VSS (power), C2 VSS (power), C3 VDD (power), C19 NC, C29 VDD (power), C30 VSS (power), C31 VSS (power), D4 VDD (power), D7 VDD (power), D11 VDD (power), D13 NC, D14 NC, D15 VDD (power), D17 VDD (power), D21 VDD (power), D25 VDD (power), D28 VDD (power), G4 VDD (power), G28 VDD (power), H1 VSS (power), H31 VSS (power), L4 VDD (power), L28 VDD (power), L31 NC, M1 VSS (power), M31 VSS (power), N1 NC, N2 NC, N29 NC, N31 NC, R4 VDD (power), R28 VDD (power), T1 VSS (power), T31 VSS (power), U4 VDD (power), U28 VDD (power), V3 NC, V4 NC, V31 NC, W29 NC, W31 NC, Y1 VSS (power), Y31 VSS (power)

## OR2C15A4M84-D
designator U?
ORCA Series 2C FPGA: 5.0 V, Commercial Grade, 320 User I/Os.; Published: 21-May-2003; LatestRevisionDate: 13-Apr-2006; LatestRevisionNote: IPC-7351 Footprint Added.; DatasheetVersion: Jan-2003; PackageVersion: pkg_32, Aug-2005; PackageReference: PLCC84; Publisher: Altium Limited; PackageDescription: 84-Pin Leaded Chip Carrier 1.27 mm Pitch; Code_IPC: PLCC-84; ComponentLink1Description: Manufacturer Link; ComponentLink1URL: http://www.latticesemi.com/products/fpga/orca/orca2/index.cfm; ComponentLink2Description: Datasheet; ComponentLink2URL: http://www.latticesemi.com/lit/docs/datasheets/fpga/ds99-094fpga.pdf; ComponentLink3Description: Lattice Login; ComponentLink3URL: http://www.latticesemi.com/account/login.cfm
footprint PLCC84_N (Leaded Chip Carrier, 84-Leads, Body 29.3x29.3mm, Pitch 1.27mm, IPC Medium Density)
footprint PLCC84_L (Leaded Chip Carrier, 84-Leads, Body 29.3x29.3mm, Pitch 1.27mm, IPC High Density)
footprint PLCC84_M (Leaded Chip Carrier, 84-Leads, Body 29.3x29.3mm, Pitch 1.27mm, IPC Low Density)
3D model OR2C15A-PLCC84 (84-Pin Leaded Chip Carrier 1.27 mm Pitch)
pins: 1 VSS (power), 2 PT10A/D2 (io), 3 VSS (power), 4 PT9D/D1 (io), 5 PT9A/D0/DIN (io), 6 PT8A/DOUT (io), 7 PT7D (io), 8 PT6A/TDI (io), 9 PT4A/TMS (io), 10 PT1A/TCK (io), 11 RD_DATA/TDO (out), 12 VDD (power), 13 VSS (power), 14 PL2D/A0 (io), 15 PL5A/A1 (io), 16 PL6A/A2 (io), 17 PL7A/A3 (io), 18 PL8A/A4 (io), 19 PL9D/A5 (io), 20 PL9A/A6 (io), 21 PL10A/A7 (io), 22 VDD (power), 23 PL11A/A8 (io), 24 VSS (power), 25 PL12D/A9 (io), 26 PL12A/A10 (io), 27 PL13A/A11 (io), 28 PL14D/A12 (io), 29 PL15B/A13 (io), 30 PL17D/A14 (io), 31 PL20A/A15 (io), 32 CCLK (io), 33 VDD (power), 34 VSS (power), 35 PB1A/A16 (io), 36 PB4D/A17 (io), 37 PB6B (io), 38 PB7D (io), 39 PB8A (io), 40 PB9A (io), 41 PB9D (io), 42 PB10A (io), 43 VSS (power), 44 PB11A (io), 45 VSS (power), 46 PB12A (io), 47 PB12D (io), 48 PB13A/HDC (io), 49 PB14A/~{LDC} (io), 50 PB14D (io), 51 PB16A/~{INIT} (io), 52 PB20D (io), 53 DONE (io), 54 ~{RESET} (in), 55 ~{PRGM} (in), 56 PR20A/M0 (io), 57 PR17A (io), 58 PR16D/M1 (io), 59 PR14A (io), 60 PR13A/M2 (io), 61 PR12A/M3 (io), 62 PR12D (io), 63 PR11A (io), 64 VDD (power), 65 PR10A (io), 66 VSS (power), 67 PR9A (io), 68 PR9D (io), 69 PR8A/CS1 (io), 70 PR7A/~{CS0} (io), 71 PR6D (io), 72 PR5A/~{RD} (io), 73 PR3A/~{WR} (io), 74 ~{RD_CFG} (in), 75 VDD (power), 76 VSS (power), 77 PT19A/RDY/RCLK (io), 78 PT16D/D7 (io), 79 PT15D (io), 80 PT14B/D6 (io), 81 PT13A/D5 (io), 82 PT12D (io), 83 PT12A/D4 (io), 84 PT11A/D3 (io)

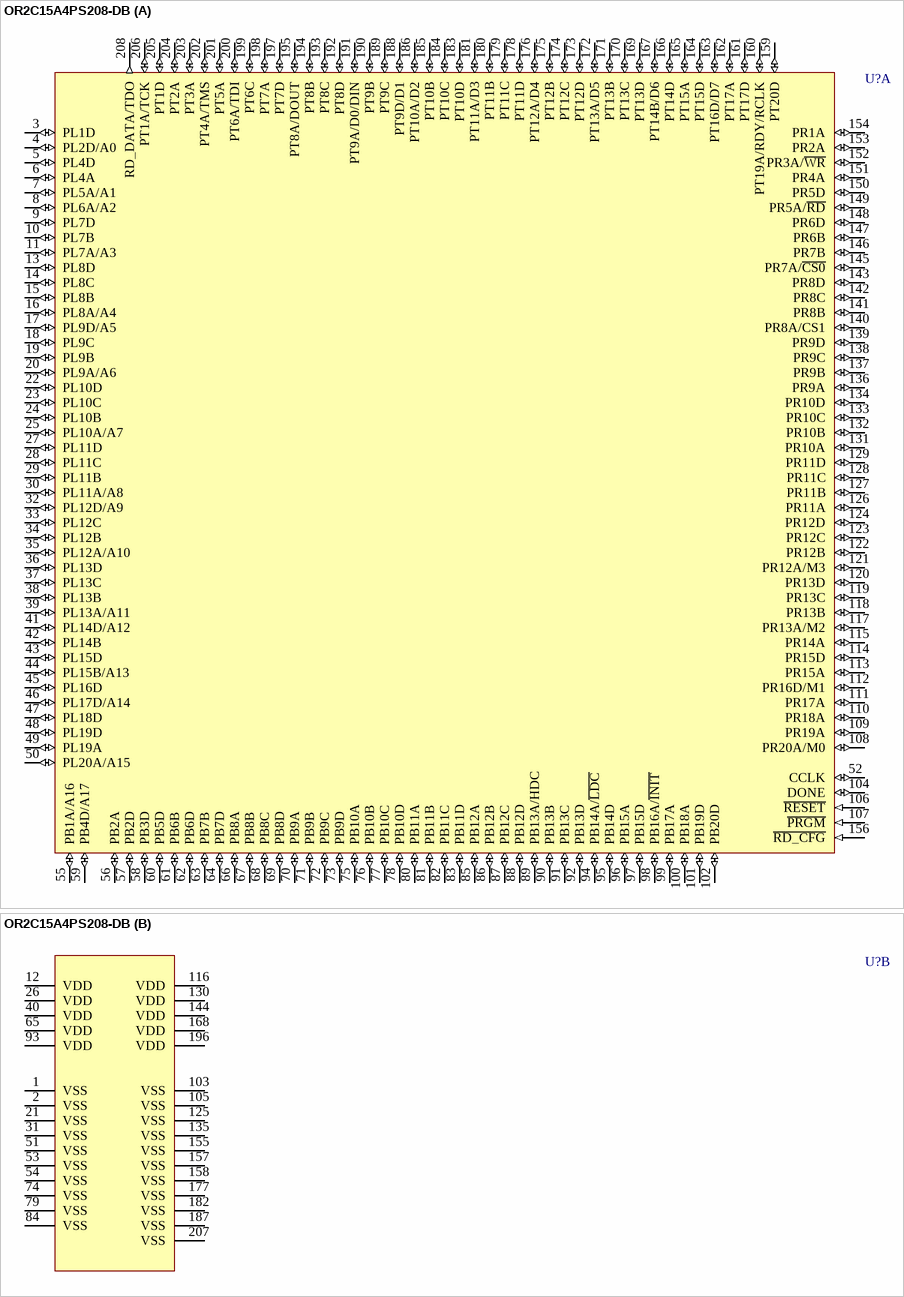
[diagram p51: symbol OR2C15A4PS208-DB]

## OR2C15A4PS208-DB
designator U?
ORCA Series 2C FPGA: 5.0 V, Commercial Grade, 320 User I/Os.; Published: 21-May-2003; LatestRevisionDate: 13-Apr-2006; LatestRevisionNote: IPC-7351 Footprint Added.; DatasheetVersion: Jan-2003; PackageVersion: pkg_32, Aug-2005; PackageReference: PQFP208; Publisher: Altium Limited; PackageDescription: 208-Pin Plastic Quad Flat Pack (PQFP208); Code_JEDEC: MO-143-FAI; ComponentLink1Description: Manufacturer Link; ComponentLink1URL: http://www.latticesemi.com/products/fpga/orca/orca2/index.cfm; ComponentLink2Description: Datasheet; ComponentLink2URL: http://www.latticesemi.com/lit/docs/datasheets/fpga/ds99-094fpga.pdf; ComponentLink3Description: Lattice Login; ComponentLink3URL: http://www.latticesemi.com/account/login.cfm
footprint PQFP208_N (Shrink QFP, 208-Leads, Body 28x28mm, Pitch 0.5mm, IPC Medium Density)
footprint PQFP208_L (Shrink QFP, 208-Leads, Body 28x28mm, Pitch 0.5mm, IPC High Density)
footprint PQFP208_M (Shrink QFP, 208-Leads, Body 28x28mm, Pitch 0.5mm, IPC Low Density)
3D model OR2C15A-PQFP208 (208-Pin Plastic Quad Flat Pack (PQFP208))
part A pins: 3 PL1D (io), 4 PL2D/A0 (io), 5 PL4D (io), 6 PL4A (io), 7 PL5A/A1 (io), 8 PL6A/A2 (io), 9 PL7D (io), 10 PL7B (io), 11 PL7A/A3 (io), 13 PL8D (io), 14 PL8C (io), 15 PL8B (io), 16 PL8A/A4 (io), 17 PL9D/A5 (io), 18 PL9C (io), 19 PL9B (io), 20 PL9A/A6 (io), 22 PL10D (io), 23 PL10C (io), 24 PL10B (io), 25 PL10A/A7 (io), 27 PL11D (io), 28 PL11C (io), 29 PL11B (io), 30 PL11A/A8 (io), 32 PL12D/A9 (io), 33 PL12C (io), 34 PL12B (io), 35 PL12A/A10 (io), 36 PL13D (io), 37 PL13C (io), 38 PL13B (io), 39 PL13A/A11 (io), 41 PL14D/A12 (io), 42 PL14B (io), 43 PL15D (io), 44 PL15B/A13 (io), 45 PL16D (io), 46 PL17D/A14 (io), 47 PL18D (io), 48 PL19D (io), 49 PL19A (io), 50 PL20A/A15 (io), 52 CCLK (io), 55 PB1A/A16 (io), 56 PB2A (io), 57 PB2D (io), 58 PB3D (io), 59 PB4D/A17 (io), 60 PB5D (io), 61 PB6B (io), 62 PB6D (io), 63 PB7B (io), 64 PB7D (io), 66 PB8A (io), 67 PB8B (io), 68 PB8C (io), 69 PB8D (io), 70 PB9A (io), 71 PB9B (io), 72 PB9C (io), 73 PB9D (io), 75 PB10A (io), 76 PB10B (io), 77 PB10C (io), 78 PB10D (io), 80 PB11A (io), 81 PB11B (io), 82 PB11C (io), 83 PB11D (io), 85 PB12A (io), 86 PB12B (io), 87 PB12C (io), 88 PB12D (io), 89 PB13A/HDC (io), 90 PB13B (io), 91 PB13C (io), 92 PB13D (io), 94 PB14A/~{LDC} (io), 95 PB14D (io), 96 PB15A (io), 97 PB15D (io), 98 PB16A/~{INIT} (io), 99 PB17A (io), 100 PB18A (io), 101 PB19D (io), 102 PB20D (io), 104 DONE (io), 106 ~{RESET} (in), 107 ~{PRGM} (in), 108 PR20A/M0 (io), 109 PR19A (io), 110 PR18A (io), 111 PR17A (io), 112 PR16D/M1 (io), 113 PR15A (io), 114 PR15D (io), 115 PR14A (io), 117 PR13A/M2 (io), 118 PR13B (io), 119 PR13C (io), 120 PR13D (io), 121 PR12A/M3 (io), 122 PR12B (io), 123 PR12C (io), 124 PR12D (io), 126 PR11A (io), 127 PR11B (io), 128 PR11C (io), 129 PR11D (io), 131 PR10A (io), 132 PR10B (io), 133 PR10C (io), 134 PR10D (io), 136 PR9A (io), 137 PR9B (io), 138 PR9C (io), 139 PR9D (io), 140 PR8A/CS1 (io), 141 PR8B (io), 142 PR8C (io), 143 PR8D (io), 145 PR7A/~{CS0} (io), 146 PR7B (io), 147 PR6B (io), 148 PR6D (io), 149 PR5A/~{RD} (io), 150 PR5D (io), 151 PR4A (io), 152 PR3A/~{WR} (io), 153 PR2A (io), 154 PR1A (io), 156 ~{RD_CFG} (in), 159 PT20D (io), 160 PT19A/RDY/RCLK (io), 161 PT17D (io), 162 PT17A (io), 163 PT16D/D7 (io), 164 PT15D (io), 165 PT15A (io), 166 PT14D (io), 167 PT14B/D6 (io), 169 PT13D (io), 170 PT13C (io), 171 PT13B (io), 172 PT13A/D5 (io), 173 PT12D (io), 174 PT12C (io), 175 PT12B (io), 176 PT12A/D4 (io), 178 PT11D (io), 179 PT11C (io), 180 PT11B (io), 181 PT11A/D3 (io), 183 PT10D (io), 184 PT10C (io), 185 PT10B (io), 186 PT10A/D2 (io), 188 PT9D/D1 (io), 189 PT9C (io), 190 PT9B (io), 191 PT9A/D0/DIN (io), 192 PT8D (io), 193 PT8C (io), 194 PT8B (io), 195 PT8A/DOUT (io), 197 PT7D (io), 198 PT7A (io), 199 PT6C (io), 200 PT6A/TDI (io), 201 PT5A (io), 202 PT4A/TMS (io), 203 PT3A (io), 204 PT2A (io), 205 PT1D (io), 206 PT1A/TCK (io), 208 RD_DATA/TDO (out)
part B pins: 1 VSS (power), 2 VSS (power), 12 VDD (power), 21 VSS (power), 26 VDD (power), 31 VSS (power), 40 VDD (power), 51 VSS (power), 53 VSS (power), 54 VSS (power), 65 VDD (power), 74 VSS (power), 79 VSS (power), 84 VSS (power), 93 VDD (power), 103 VSS (power), 105 VSS (power), 116 VDD (power), 125 VSS (power), 130 VDD (power), 135 VSS (power), 144 VDD (power), 155 VSS (power), 157 VSS (power), 158 VSS (power), 168 VDD (power), 177 VSS (power), 182 VSS (power), 187 VSS (power), 196 VDD (power), 207 VSS (power)

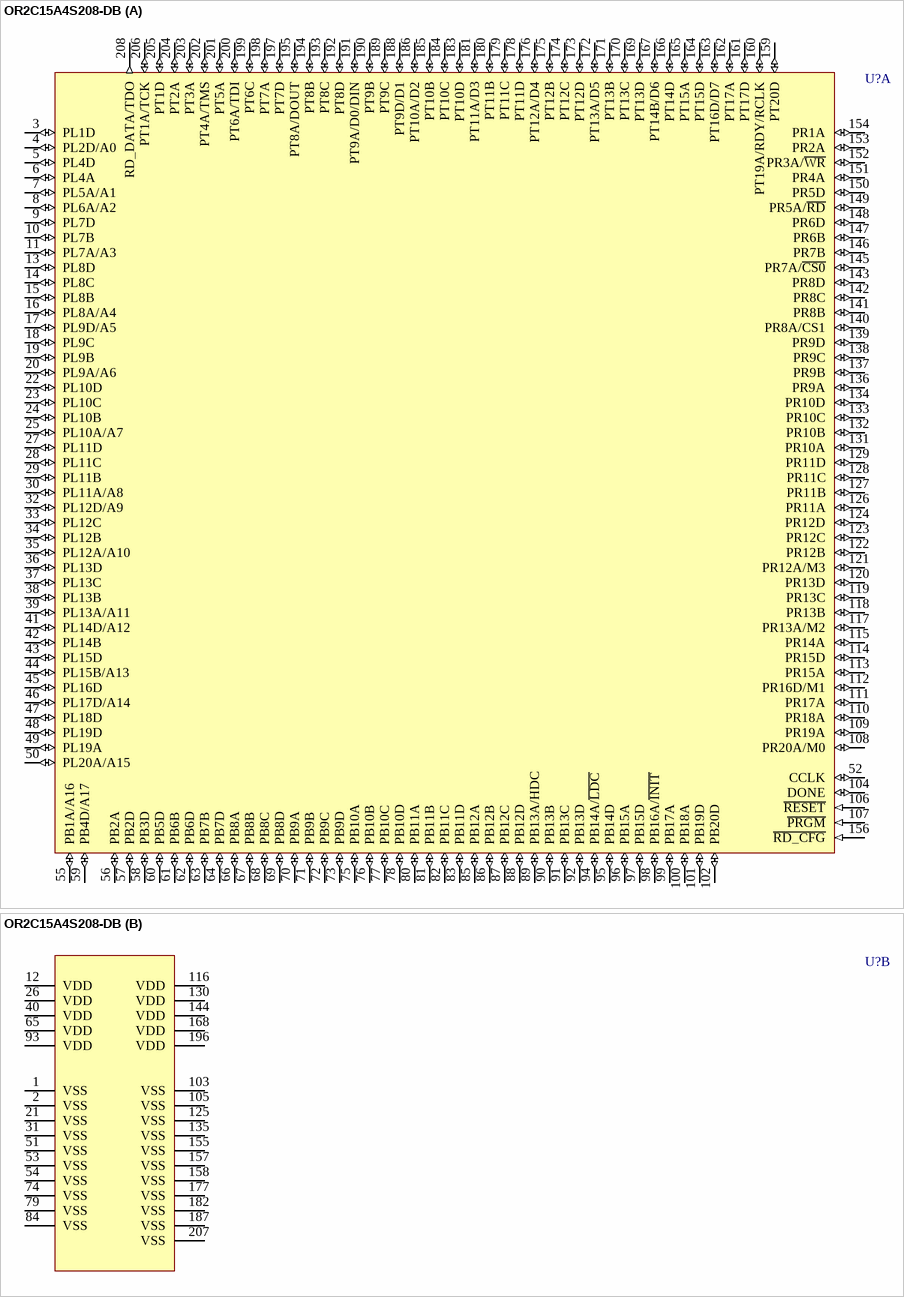
[diagram p52: symbol OR2C15A4S208-DB]

## OR2C15A4S208-DB
designator U?
ORCA Series 2C FPGA: 5.0 V, Commercial Grade, 320 User I/Os.; Published: 21-May-2003; LatestRevisionDate: 13-Apr-2006; LatestRevisionNote: IPC-7351 Footprint Added.; DatasheetVersion: Jan-2003; PackageVersion: pkg_32, Aug-2005; PackageReference: PQFP208; Publisher: Altium Limited; PackageDescription: 208-Pin Plastic Quad Flat Pack (PQFP208); Code_JEDEC: MO-143-FAI; ComponentLink1Description: Manufacturer Link; ComponentLink1URL: http://www.latticesemi.com/products/fpga/orca/orca2/index.cfm; ComponentLink2Description: Datasheet; ComponentLink2URL: http://www.latticesemi.com/lit/docs/datasheets/fpga/ds99-094fpga.pdf; ComponentLink3Description: Lattice Login; ComponentLink3URL: http://www.latticesemi.com/account/login.cfm
footprint PQFP208_N (Shrink QFP, 208-Leads, Body 28x28mm, Pitch 0.5mm, IPC Medium Density)
footprint PQFP208_L (Shrink QFP, 208-Leads, Body 28x28mm, Pitch 0.5mm, IPC High Density)
footprint PQFP208_M (Shrink QFP, 208-Leads, Body 28x28mm, Pitch 0.5mm, IPC Low Density)
3D model OR2C15A-PQFP208 (208-Pin Plastic Quad Flat Pack (PQFP208))
part A pins: 3 PL1D (io), 4 PL2D/A0 (io), 5 PL4D (io), 6 PL4A (io), 7 PL5A/A1 (io), 8 PL6A/A2 (io), 9 PL7D (io), 10 PL7B (io), 11 PL7A/A3 (io), 13 PL8D (io), 14 PL8C (io), 15 PL8B (io), 16 PL8A/A4 (io), 17 PL9D/A5 (io), 18 PL9C (io), 19 PL9B (io), 20 PL9A/A6 (io), 22 PL10D (io), 23 PL10C (io), 24 PL10B (io), 25 PL10A/A7 (io), 27 PL11D (io), 28 PL11C (io), 29 PL11B (io), 30 PL11A/A8 (io), 32 PL12D/A9 (io), 33 PL12C (io), 34 PL12B (io), 35 PL12A/A10 (io), 36 PL13D (io), 37 PL13C (io), 38 PL13B (io), 39 PL13A/A11 (io), 41 PL14D/A12 (io), 42 PL14B (io), 43 PL15D (io), 44 PL15B/A13 (io), 45 PL16D (io), 46 PL17D/A14 (io), 47 PL18D (io), 48 PL19D (io), 49 PL19A (io), 50 PL20A/A15 (io), 52 CCLK (io), 55 PB1A/A16 (io), 56 PB2A (io), 57 PB2D (io), 58 PB3D (io), 59 PB4D/A17 (io), 60 PB5D (io), 61 PB6B (io), 62 PB6D (io), 63 PB7B (io), 64 PB7D (io), 66 PB8A (io), 67 PB8B (io), 68 PB8C (io), 69 PB8D (io), 70 PB9A (io), 71 PB9B (io), 72 PB9C (io), 73 PB9D (io), 75 PB10A (io), 76 PB10B (io), 77 PB10C (io), 78 PB10D (io), 80 PB11A (io), 81 PB11B (io), 82 PB11C (io), 83 PB11D (io), 85 PB12A (io), 86 PB12B (io), 87 PB12C (io), 88 PB12D (io), 89 PB13A/HDC (io), 90 PB13B (io), 91 PB13C (io), 92 PB13D (io), 94 PB14A/~{LDC} (io), 95 PB14D (io), 96 PB15A (io), 97 PB15D (io), 98 PB16A/~{INIT} (io), 99 PB17A (io), 100 PB18A (io), 101 PB19D (io), 102 PB20D (io), 104 DONE (io), 106 ~{RESET} (in), 107 ~{PRGM} (in), 108 PR20A/M0 (io), 109 PR19A (io), 110 PR18A (io), 111 PR17A (io), 112 PR16D/M1 (io), 113 PR15A (io), 114 PR15D (io), 115 PR14A (io), 117 PR13A/M2 (io), 118 PR13B (io), 119 PR13C (io), 120 PR13D (io), 121 PR12A/M3 (io), 122 PR12B (io), 123 PR12C (io), 124 PR12D (io), 126 PR11A (io), 127 PR11B (io), 128 PR11C (io), 129 PR11D (io), 131 PR10A (io), 132 PR10B (io), 133 PR10C (io), 134 PR10D (io), 136 PR9A (io), 137 PR9B (io), 138 PR9C (io), 139 PR9D (io), 140 PR8A/CS1 (io), 141 PR8B (io), 142 PR8C (io), 143 PR8D (io), 145 PR7A/~{CS0} (io), 146 PR7B (io), 147 PR6B (io), 148 PR6D (io), 149 PR5A/~{RD} (io), 150 PR5D (io), 151 PR4A (io), 152 PR3A/~{WR} (io), 153 PR2A (io), 154 PR1A (io), 156 ~{RD_CFG} (in), 159 PT20D (io), 160 PT19A/RDY/RCLK (io), 161 PT17D (io), 162 PT17A (io), 163 PT16D/D7 (io), 164 PT15D (io), 165 PT15A (io), 166 PT14D (io), 167 PT14B/D6 (io), 169 PT13D (io), 170 PT13C (io), 171 PT13B (io), 172 PT13A/D5 (io), 173 PT12D (io), 174 PT12C (io), 175 PT12B (io), 176 PT12A/D4 (io), 178 PT11D (io), 179 PT11C (io), 180 PT11B (io), 181 PT11A/D3 (io), 183 PT10D (io), 184 PT10C (io), 185 PT10B (io), 186 PT10A/D2 (io), 188 PT9D/D1 (io), 189 PT9C (io), 190 PT9B (io), 191 PT9A/D0/DIN (io), 192 PT8D (io), 193 PT8C (io), 194 PT8B (io), 195 PT8A/DOUT (io), 197 PT7D (io), 198 PT7A (io), 199 PT6C (io), 200 PT6A/TDI (io), 201 PT5A (io), 202 PT4A/TMS (io), 203 PT3A (io), 204 PT2A (io), 205 PT1D (io), 206 PT1A/TCK (io), 208 RD_DATA/TDO (out)
part B pins: 1 VSS (power), 2 VSS (power), 12 VDD (power), 21 VSS (power), 26 VDD (power), 31 VSS (power), 40 VDD (power), 51 VSS (power), 53 VSS (power), 54 VSS (power), 65 VDD (power), 74 VSS (power), 79 VSS (power), 84 VSS (power), 93 VDD (power), 103 VSS (power), 105 VSS (power), 116 VDD (power), 125 VSS (power), 130 VDD (power), 135 VSS (power), 144 VDD (power), 155 VSS (power), 157 VSS (power), 158 VSS (power), 168 VDD (power), 177 VSS (power), 182 VSS (power), 187 VSS (power), 196 VDD (power), 207 VSS (power)

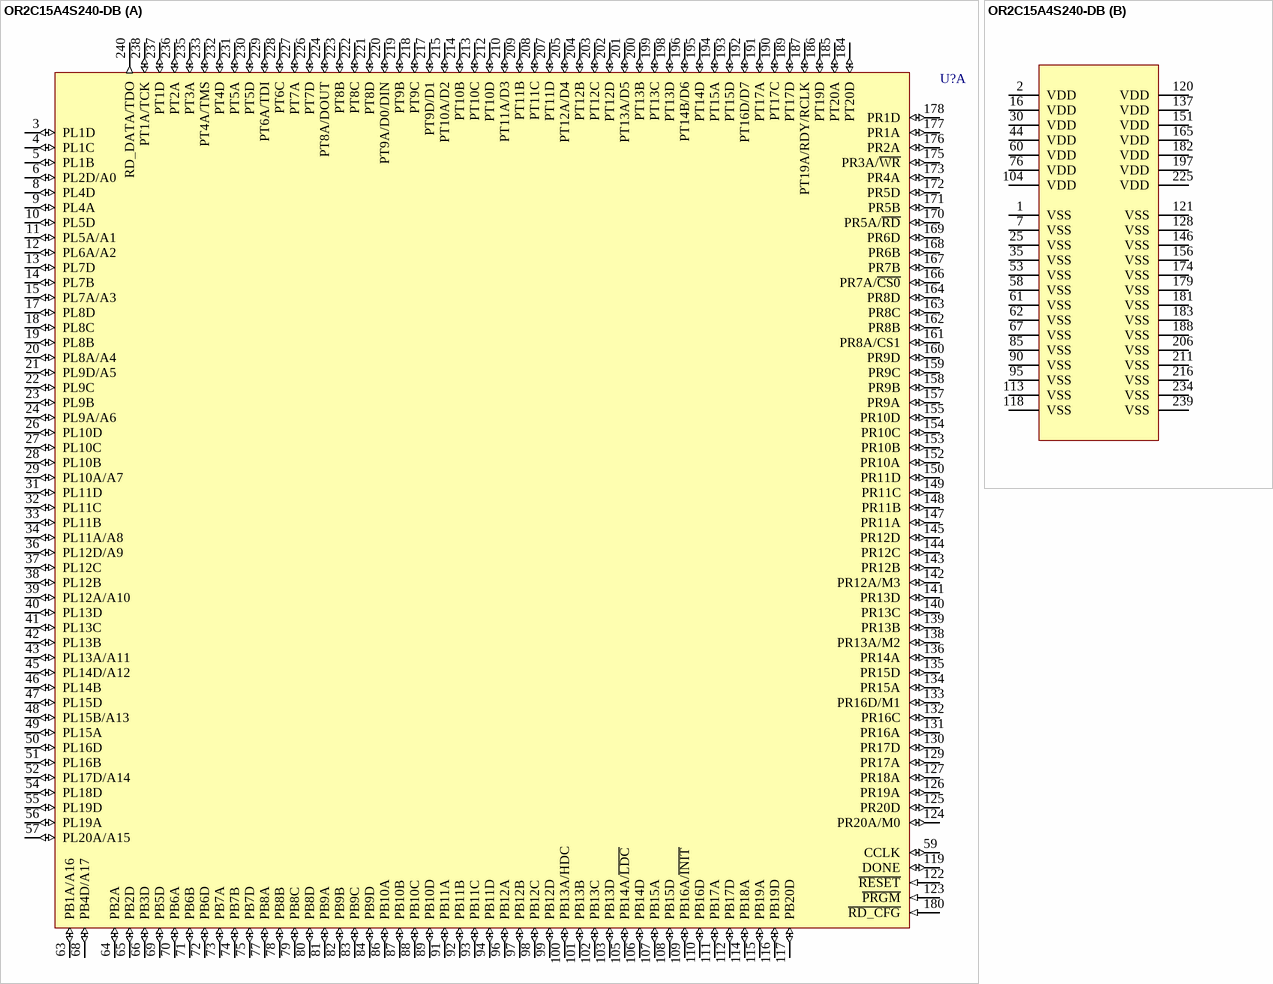
[diagram p53: symbol OR2C15A4S240-DB]

## OR2C15A4S240-DB
designator U?
ORCA Series 2C FPGA: 5.0 V, Commercial Grade, 320 User I/Os.; Published: 21-May-2003; LatestRevisionDate: 13-Apr-2006; LatestRevisionNote: IPC-7351 Footprint Added.; DatasheetVersion: Jan-2003; PackageVersion: pkg_32, Aug-2005; PackageReference: PQFP240; Publisher: Altium Limited; PackageDescription: 240-Pin Shrink Quad Flat Pack 0.5 mm Pitch; ComponentLink1Description: Manufacturer Link; ComponentLink1URL: http://www.latticesemi.com/products/fpga/orca/orca2/index.cfm; ComponentLink2Description: Datasheet; ComponentLink2URL: http://www.latticesemi.com/lit/docs/datasheets/fpga/ds99-094fpga.pdf; ComponentLink3Description: Lattice Login; ComponentLink3URL: http://www.latticesemi.com/account/login.cfm
footprint PQFP240_N (Shrink QFP, 240-Leads, Body 32x32mm, Pitch 0.5mm, IPC Medium Density)
footprint PQFP240_L (Shrink QFP, 240-Leads, Body 32x32mm, Pitch 0.5mm, IPC High Density)
footprint PQFP240_M (Shrink QFP, 240-Leads, Body 32x32mm, Pitch 0.5mm, IPC Low Density)
3D model OR2C15A-PQFP240 (240-Pin Shrink Quad Flat Pack 0.5 mm Pitch)
part A pins: 3 PL1D (io), 4 PL1C (io), 5 PL1B (io), 6 PL2D/A0 (io), 8 PL4D (io), 9 PL4A (io), 10 PL5D (io), 11 PL5A/A1 (io), 12 PL6A/A2 (io), 13 PL7D (io), 14 PL7B (io), 15 PL7A/A3 (io), 17 PL8D (io), 18 PL8C (io), 19 PL8B (io), 20 PL8A/A4 (io), 21 PL9D/A5 (io), 22 PL9C (io), 23 PL9B (io), 24 PL9A/A6 (io), 26 PL10D (io), 27 PL10C (io), 28 PL10B (io), 29 PL10A/A7 (io), 31 PL11D (io), 32 PL11C (io), 33 PL11B (io), 34 PL11A/A8 (io), 36 PL12D/A9 (io), 37 PL12C (io), 38 PL12B (io), 39 PL12A/A10 (io), 40 PL13D (io), 41 PL13C (io), 42 PL13B (io), 43 PL13A/A11 (io), 45 PL14D/A12 (io), 46 PL14B (io), 47 PL15D (io), 48 PL15B/A13 (io), 49 PL15A (io), 50 PL16D (io), 51 PL16B (io), 52 PL17D/A14 (io), 54 PL18D (io), 55 PL19D (io), 56 PL19A (io), 57 PL20A/A15 (io), 59 CCLK (io), 63 PB1A/A16 (io), 64 PB2A (io), 65 PB2D (io), 66 PB3D (io), 68 PB4D/A17 (io), 69 PB5D (io), 70 PB6A (io), 71 PB6B (io), 72 PB6D (io), 73 PB7A (io), 74 PB7B (io), 75 PB7D (io), 77 PB8A (io), 78 PB8B (io), 79 PB8C (io), 80 PB8D (io), 81 PB9A (io), 82 PB9B (io), 83 PB9C (io), 84 PB9D (io), 86 PB10A (io), 87 PB10B (io), 88 PB10C (io), 89 PB10D (io), 91 PB11A (io), 92 PB11B (io), 93 PB11C (io), 94 PB11D (io), 96 PB12A (io), 97 PB12B (io), 98 PB12C (io), 99 PB12D (io), 100 PB13A/HDC (io), 101 PB13B (io), 102 PB13C (io), 103 PB13D (io), 105 PB14A/~{LDC} (io), 106 PB14D (io), 107 PB15A (io), 108 PB15D (io), 109 PB16A/~{INIT} (io), 110 PB16D (io), 111 PB17A (io), 112 PB17D (io), 114 PB18A (io), 115 PB19A (io), 116 PB19D (io), 117 PB20D (io), 119 DONE (io), 122 ~{RESET} (in), 123 ~{PRGM} (in), 124 PR20A/M0 (io), 125 PR20D (io), 126 PR19A (io), 127 PR18A (io), 129 PR17A (io), 130 PR17D (io), 131 PR16A (io), 132 PR16C (io), 133 PR16D/M1 (io), 134 PR15A (io), 135 PR15D (io), 136 PR14A (io), 138 PR13A/M2 (io), 139 PR13B (io), 140 PR13C (io), 141 PR13D (io), 142 PR12A/M3 (io), 143 PR12B (io), 144 PR12C (io), 145 PR12D (io), 147 PR11A (io), 148 PR11B (io), 149 PR11C (io), 150 PR11D (io), 152 PR10A (io), 153 PR10B (io), 154 PR10C (io), 155 PR10D (io), 157 PR9A (io), 158 PR9B (io), 159 PR9C (io), 160 PR9D (io), 161 PR8A/CS1 (io), 162 PR8B (io), 163 PR8C (io), 164 PR8D (io), 166 PR7A/~{CS0} (io), 167 PR7B (io), 168 PR6B (io), 169 PR6D (io), 170 PR5A/~{RD} (io), 171 PR5B (io), 172 PR5D (io), 173 PR4A (io), 175 PR3A/~{WR} (io), 176 PR2A (io), 177 PR1A (io), 178 PR1D (io), 180 ~{RD_CFG} (in), 184 PT20D (io), 185 PT20A (io), 186 PT19D (io), 187 PT19A/RDY/RCLK (io), 189 PT17D (io), 190 PT17C (io), 191 PT17A (io), 192 PT16D/D7 (io), 193 PT15D (io), 194 PT15A (io), 195 PT14D (io), 196 PT14B/D6 (io), 198 PT13D (io), 199 PT13C (io), 200 PT13B (io), 201 PT13A/D5 (io), 202 PT12D (io), 203 PT12C (io), 204 PT12B (io), 205 PT12A/D4 (io), 207 PT11D (io), 208 PT11C (io), 209 PT11B (io), 210 PT11A/D3 (io), 212 PT10D (io), 213 PT10C (io), 214 PT10B (io), 215 PT10A/D2 (io), 217 PT9D/D1 (io), 218 PT9C (io), 219 PT9B (io), 220 PT9A/D0/DIN (io), 221 PT8D (io), 222 PT8C (io), 223 PT8B (io), 224 PT8A/DOUT (io), 226 PT7D (io), 227 PT7A (io), 228 PT6C (io), 229 PT6A/TDI (io), 230 PT5D (io), 231 PT5A (io), 232 PT4D (io), 233 PT4A/TMS (io), 235 PT3A (io), 236 PT2A (io), 237 PT1D (io), 238 PT1A/TCK (io), 240 RD_DATA/TDO (out)
part B pins: 1 VSS (power), 2 VDD (power), 7 VSS (power), 16 VDD (power), 25 VSS (power), 30 VDD (power), 35 VSS (power), 44 VDD (power), 53 VSS (power), 58 VSS (power), 60 VDD (power), 61 VSS (power), 62 VSS (power), 67 VSS (power), 76 VDD (power), 85 VSS (power), 90 VSS (power), 95 VSS (power), 104 VDD (power), 113 VSS (power), 118 VSS (power), 120 VDD (power), 121 VSS (power), 128 VSS (power), 137 VDD (power), 146 VSS (power), 151 VDD (power), 156 VSS (power), 165 VDD (power), 174 VSS (power), 179 VSS (power), 181 VSS (power), 182 VDD (power), 183 VSS (power), 188 VSS (power), 197 VDD (power), 206 VSS (power), 211 VSS (power), 216 VSS (power), 225 VDD (power), 234 VSS (power), 239 VSS (power)

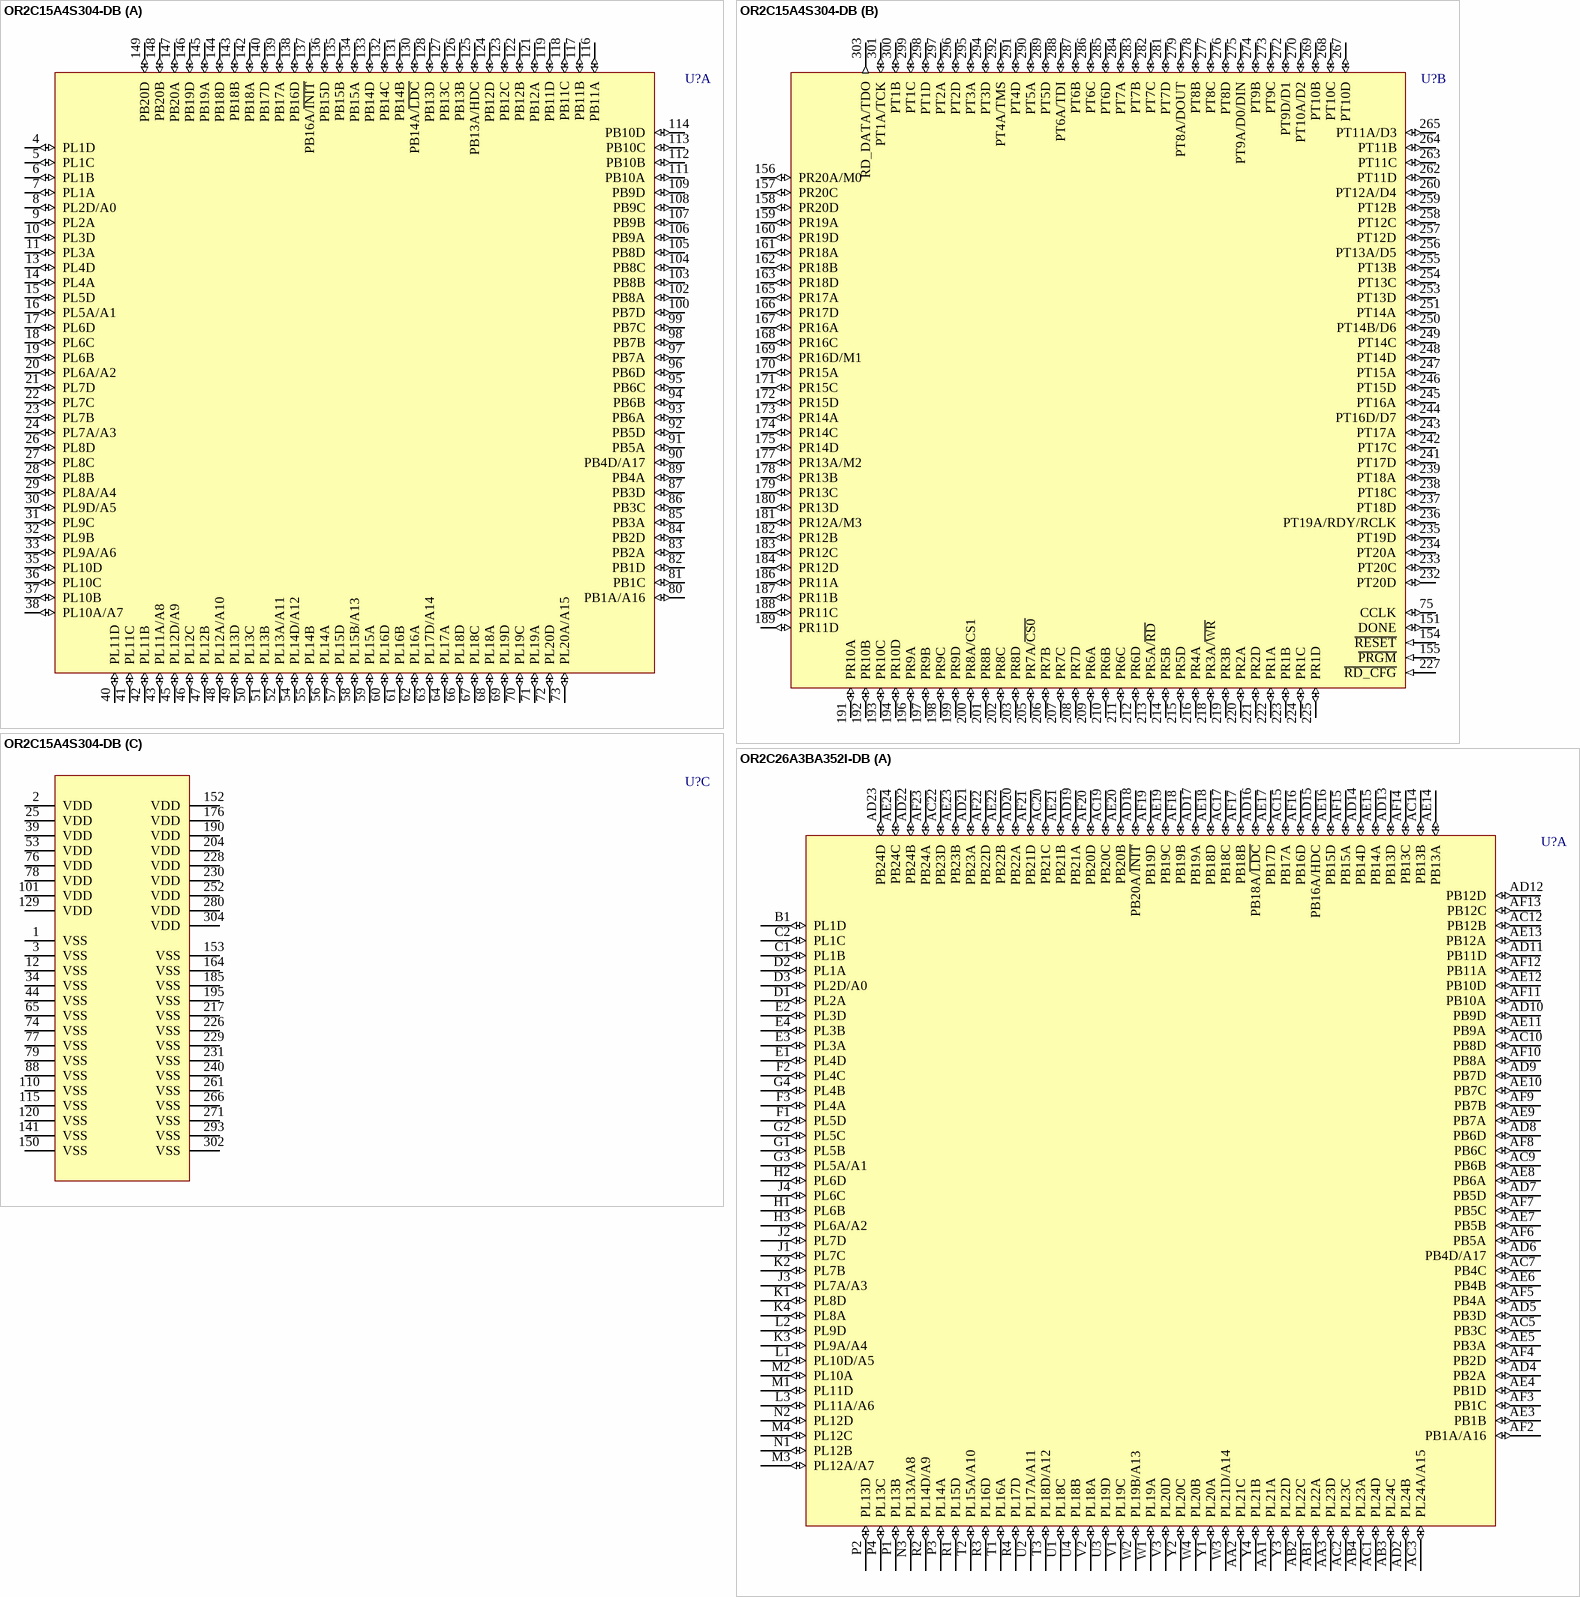
[diagram p54: symbols OR2C15A4S304-DB to OR2C26A3BA352I-DB]

## OR2C15A4S304-DB
designator U?
ORCA Series 2C FPGA: 5.0 V, Commercial Grade, 320 User I/Os.; Published: 21-May-2003; LatestRevisionDate: 13-Apr-2006; LatestRevisionNote: IPC-7351 Footprint Added.; DatasheetVersion: Jan-2003; PackageVersion: pkg_32, Aug-2005; PackageReference: PQFP304; Publisher: Altium Limited; PackageDescription: 304-Pin Shrink Quad Flat Pack 0.5 mm Pitch; ComponentLink1Description: Manufacturer Link; ComponentLink1URL: http://www.latticesemi.com/products/fpga/orca/orca2/index.cfm; ComponentLink2Description: Datasheet; ComponentLink2URL: http://www.latticesemi.com/lit/docs/datasheets/fpga/ds99-094fpga.pdf; ComponentLink3Description: Lattice Login; ComponentLink3URL: http://www.latticesemi.com/account/login.cfm
footprint PQFP304_N (Shrink QFP, 304-Leads, Body 40x40mm, Pitch 0.5mm, IPC Medium Density)
footprint PQFP304_L (Shrink QFP, 304-Leads, Body 40x40mm, Pitch 0.5mm, IPC High Density)
footprint PQFP304_M (Shrink QFP, 304-Leads, Body 40x40mm, Pitch 0.5mm, IPC Low Density)
3D model OR2C15A-PQFP304 (304-Pin Shrink Quad Flat Pack 0.5 mm Pitch)
part A pins: 4 PL1D (io), 5 PL1C (io), 6 PL1B (io), 7 PL1A (io), 8 PL2D/A0 (io), 9 PL2A (io), 10 PL3D (io), 11 PL3A (io), 13 PL4D (io), 14 PL4A (io), 15 PL5D (io), 16 PL5A/A1 (io), 17 PL6D (io), 18 PL6C (io), 19 PL6B (io), 20 PL6A/A2 (io), 21 PL7D (io), 22 PL7C (io), 23 PL7B (io), 24 PL7A/A3 (io), 26 PL8D (io), 27 PL8C (io), 28 PL8B (io), 29 PL8A/A4 (io), 30 PL9D/A5 (io), 31 PL9C (io), 32 PL9B (io), 33 PL9A/A6 (io), 35 PL10D (io), 36 PL10C (io), 37 PL10B (io), 38 PL10A/A7 (io), 40 PL11D (io), 41 PL11C (io), 42 PL11B (io), 43 PL11A/A8 (io), 45 PL12D/A9 (io), 46 PL12C (io), 47 PL12B (io), 48 PL12A/A10 (io), 49 PL13D (io), 50 PL13C (io), 51 PL13B (io), 52 PL13A/A11 (io), 54 PL14D/A12 (io), 55 PL14B (io), 56 PL14A (io), 57 PL15D (io), 58 PL15B/A13 (io), 59 PL15A (io), 60 PL16D (io), 61 PL16B (io), 62 PL16A (io), 63 PL17D/A14 (io), 64 PL17A (io), 66 PL18D (io), 67 PL18C (io), 68 PL18A (io), 69 PL19D (io), 70 PL19C (io), 71 PL19A (io), 72 PL20D (io), 73 PL20A/A15 (io), 80 PB1A/A16 (io), 81 PB1C (io), 82 PB1D (io), 83 PB2A (io), 84 PB2D (io), 85 PB3A (io), 86 PB3C (io), 87 PB3D (io), 89 PB4A (io), 90 PB4D/A17 (io), 91 PB5A (io), 92 PB5D (io), 93 PB6A (io), 94 PB6B (io), 95 PB6C (io), 96 PB6D (io), 97 PB7A (io), 98 PB7B (io), 99 PB7C (io), 100 PB7D (io), 102 PB8A (io), 103 PB8B (io), 104 PB8C (io), 105 PB8D (io), 106 PB9A (io), 107 PB9B (io), 108 PB9C (io), 109 PB9D (io), 111 PB10A (io), 112 PB10B (io), 113 PB10C (io), 114 PB10D (io), 116 PB11A (io), 117 PB11B (io), 118 PB11C (io), 119 PB11D (io), 121 PB12A (io), 122 PB12B (io), 123 PB12C (io), 124 PB12D (io), 125 PB13A/HDC (io), 126 PB13B (io), 127 PB13C (io), 128 PB13D (io), 130 PB14A/~{LDC} (io), 131 PB14B (io), 132 PB14C (io), 133 PB14D (io), 134 PB15A (io), 135 PB15B (io), 136 PB15D (io), 137 PB16A/~{INIT} (io), 138 PB16D (io), 139 PB17A (io), 140 PB17D (io), 142 PB18A (io), 143 PB18B (io), 144 PB18D (io), 145 PB19A (io), 146 PB19D (io), 147 PB20A (io), 148 PB20B (io), 149 PB20D (io)
part B pins: 75 CCLK (io), 151 DONE (io), 154 ~{RESET} (in), 155 ~{PRGM} (in), 156 PR20A/M0 (io), 157 PR20C (io), 158 PR20D (io), 159 PR19A (io), 160 PR19D (io), 161 PR18A (io), 162 PR18B (io), 163 PR18D (io), 165 PR17A (io), 166 PR17D (io), 167 PR16A (io), 168 PR16C (io), 169 PR16D/M1 (io), 170 PR15A (io), 171 PR15C (io), 172 PR15D (io), 173 PR14A (io), 174 PR14C (io), 175 PR14D (io), 177 PR13A/M2 (io), 178 PR13B (io), 179 PR13C (io), 180 PR13D (io), 181 PR12A/M3 (io), 182 PR12B (io), 183 PR12C (io), 184 PR12D (io), 186 PR11A (io), 187 PR11B (io), 188 PR11C (io), 189 PR11D (io), 191 PR10A (io), 192 PR10B (io), 193 PR10C (io), 194 PR10D (io), 196 PR9A (io), 197 PR9B (io), 198 PR9C (io), 199 PR9D (io), 200 PR8A/CS1 (io), 201 PR8B (io), 202 PR8C (io), 203 PR8D (io), 205 PR7A/~{CS0} (io), 206 PR7B (io), 207 PR7C (io), 208 PR7D (io), 209 PR6A (io), 210 PR6B (io), 211 PR6C (io), 212 PR6D (io), 213 PR5A/~{RD} (io), 214 PR5B (io), 215 PR5D (io), 216 PR4A (io), 218 PR3A/~{WR} (io), 219 PR3B (io), 220 PR2A (io), 221 PR2D (io), 222 PR1A (io), 223 PR1B (io), 224 PR1C (io), 225 PR1D (io), 227 ~{RD_CFG} (in), 232 PT20D (io), 233 PT20C (io), 234 PT20A (io), 235 PT19D (io), 236 PT19A/RDY/RCLK (io), 237 PT18D (io), 238 PT18C (io), 239 PT18A (io), 241 PT17D (io), 242 PT17C (io), 243 PT17A (io), 244 PT16D/D7 (io), 245 PT16A (io), 246 PT15D (io), 247 PT15A (io), 248 PT14D (io), 249 PT14C (io), 250 PT14B/D6 (io), 251 PT14A (io), 253 PT13D (io), 254 PT13C (io), 255 PT13B (io), 256 PT13A/D5 (io), 257 PT12D (io), 258 PT12C (io), 259 PT12B (io), 260 PT12A/D4 (io), 262 PT11D (io), 263 PT11C (io), 264 PT11B (io), 265 PT11A/D3 (io), 267 PT10D (io), 268 PT10C (io), 269 PT10B (io), 270 PT10A/D2 (io), 272 PT9D/D1 (io), 273 PT9C (io), 274 PT9B (io), 275 PT9A/D0/DIN (io), 276 PT8D (io), 277 PT8C (io), 278 PT8B (io), 279 PT8A/DOUT (io), 281 PT7D (io), 282 PT7C (io), 283 PT7B (io), 284 PT7A (io), 285 PT6D (io), 286 PT6C (io), 287 PT6B (io), 288 PT6A/TDI (io), 289 PT5D (io), 290 PT5A (io), 291 PT4D (io), 292 PT4A/TMS (io), 294 PT3D (io), 295 PT3A (io), 296 PT2D (io), 297 PT2A (io), 298 PT1D (io), 299 PT1C (io), 300 PT1B (io), 301 PT1A/TCK (io), 303 RD_DATA/TDO (out)
part C pins: 1 VSS (power), 2 VDD (power), 3 VSS (power), 12 VSS (power), 25 VDD (power), 34 VSS (power), 39 VDD (power), 44 VSS (power), 53 VDD (power), 65 VSS (power), 74 VSS (power), 76 VDD (power), 77 VSS (power), 78 VDD (power), 79 VSS (power), 88 VSS (power), 101 VDD (power), 110 VSS (power), 115 VSS (power), 120 VSS (power), 129 VDD (power), 141 VSS (power), 150 VSS (power), 152 VDD (power), 153 VSS (power), 164 VSS (power), 176 VDD (power), 185 VSS (power), 190 VDD (power), 195 VSS (power), 204 VDD (power), 217 VSS (power), 226 VSS (power), 228 VDD (power), 229 VSS (power), 230 VDD (power), 231 VSS (power), 240 VSS (power), 252 VDD (power), 261 VSS (power), 266 VSS (power), 271 VSS (power), 280 VDD (power), 293 VSS (power), 302 VSS (power), 304 VDD (power)

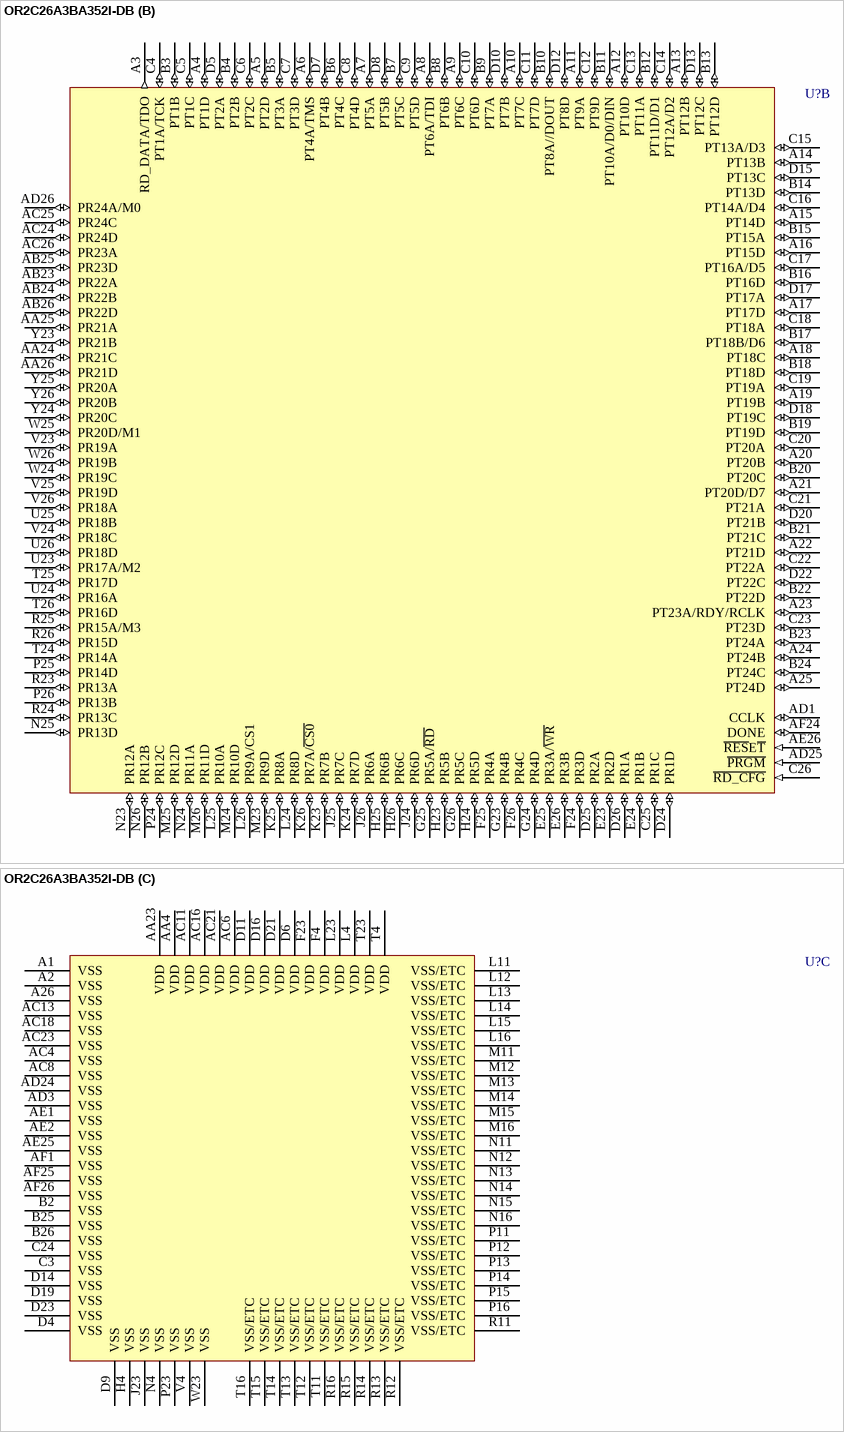
[diagram p55: symbol OR2C26A3BA352I-DB]